# Altium integrated library Xilinx XC7000.IntLib: 173 symbols (part 5 of 9)
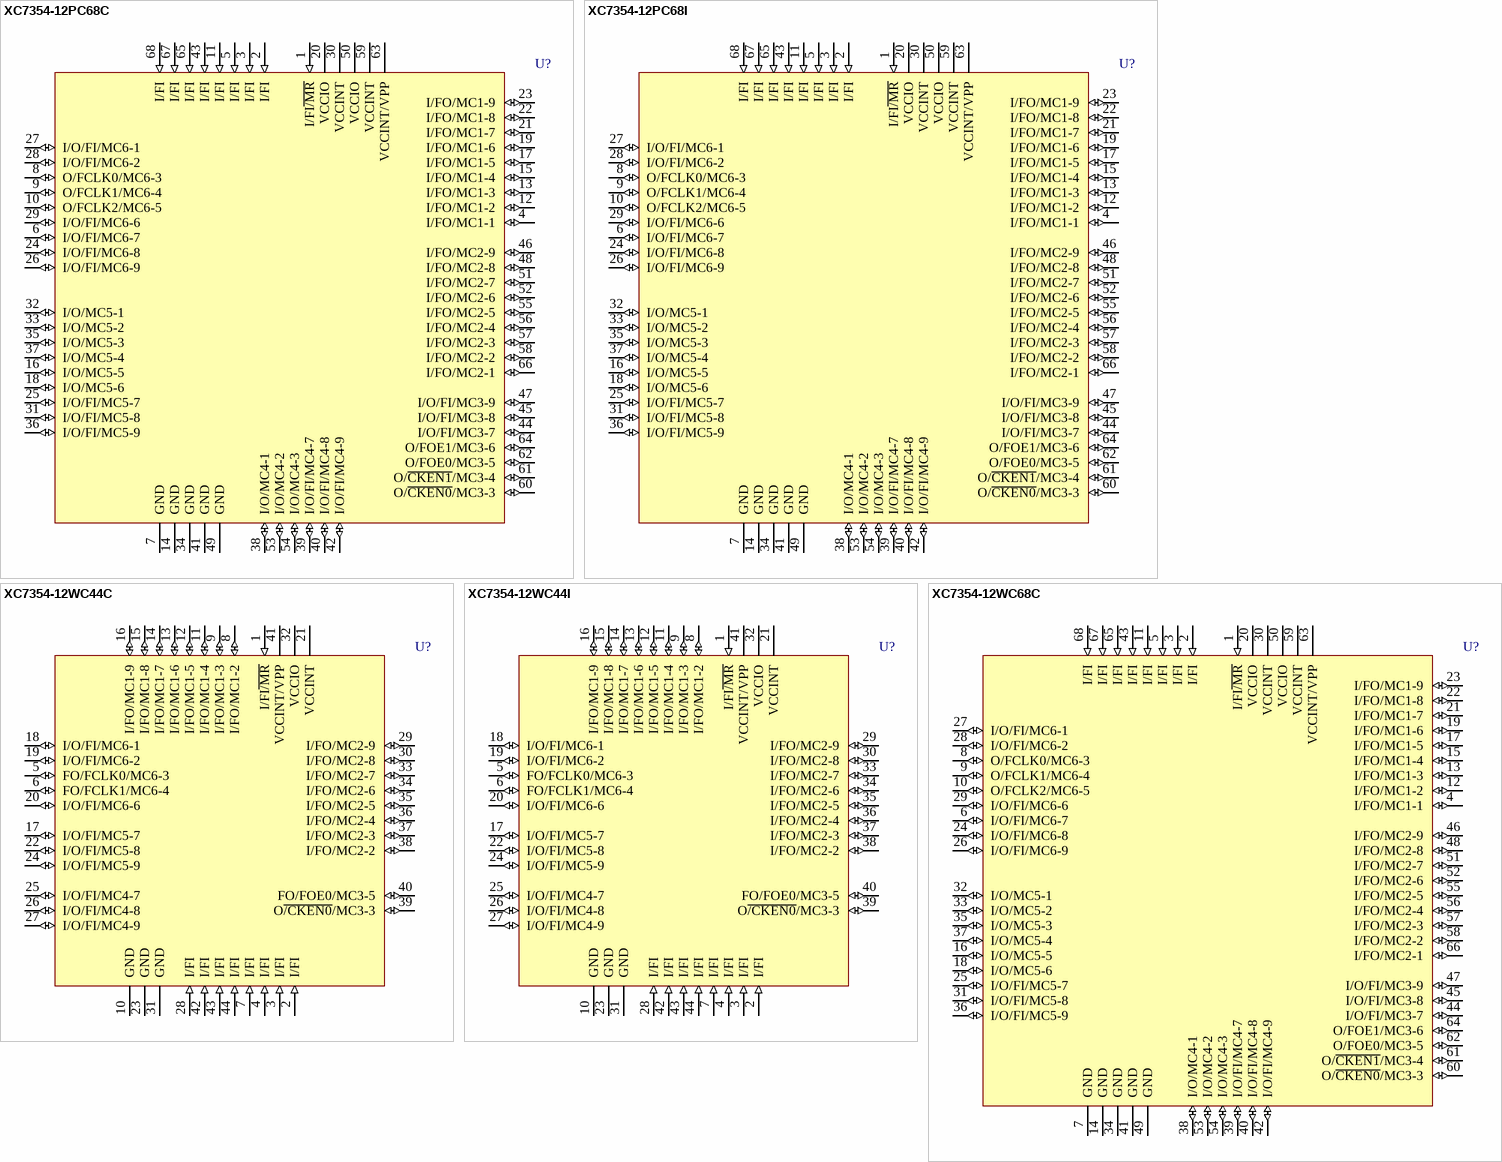
[diagram p51: symbols XC7354-12PC68C to XC7354-12WC68C]

## XC7354-12WC44C
designator U?
54 Macrocell CMOS EPLD, with 27 I/O Pins, 44-Pin LCC, Commercial Grade; Published: 8-Jun-2000; LatestRevisionDate: 13-Apr-2006; LatestRevisionNote: IPC-7351 Footprint Added.; DatasheetVersion: 1994; PackageVersion: 1994; PackageReference: WC44; Publisher: Altium Limited; PackageDescription: 44-Pin Window Ceramic Leaded Chip Carrier (WC44); Code_IPC: PLCC-44; ComponentLink1Description: Manufacturer Link; ComponentLink1URL: http://www.xilinx.com/; ComponentLink2Description: Discontinuation Notice; ComponentLink2URL: http://direct.xilinx.com/bvdocs/notifications/pdn97008a.pdf
footprint WC44_N (Leaded Chip Carrier, 44-Leads, Body 16.4x16.4mm, Pitch 1.27mm, IPC Medium Density)
footprint WC44_L (Leaded Chip Carrier, 44-Leads, Body 16.4x16.4mm, Pitch 1.27mm, IPC High Density)
footprint WC44_M (Leaded Chip Carrier, 44-Leads, Body 16.4x16.4mm, Pitch 1.27mm, IPC Low Density)
3D model XC7354-WC44 (44-Pin Window Ceramic Leaded Chip Carrier (WC44))
pins: 1 I/FI~{/MR} (in), 2 I/FI (in), 3 I/FI (in), 4 I/FI (in), 5 FO/FCLK0/MC6-3 (io), 6 FO/FCLK1/MC6-4 (io), 7 I/FI (in), 8 I/FO/MC1-2 (io), 9 I/FO/MC1-3 (io), 10 GND (power), 11 I/FO/MC1-4 (io), 12 I/FO/MC1-5 (io), 13 I/FO/MC1-6 (io), 14 I/FO/MC1-7 (io), 15 I/FO/MC1-8 (io), 16 I/FO/MC1-9 (io), 17 I/O/FI/MC5-7 (io), 18 I/O/FI/MC6-1 (io), 19 I/O/FI/MC6-2 (io), 20 I/O/FI/MC6-6 (io), 21 VCCINT (power), 22 I/O/FI/MC5-8 (io), 23 GND (power), 24 I/O/FI/MC5-9 (io), 25 I/O/FI/MC4-7 (io), 26 I/O/FI/MC4-8 (io), 27 I/O/FI/MC4-9 (io), 28 I/FI (in), 29 I/FO/MC2-9 (io), 30 I/FO/MC2-8 (io), 31 GND (power), 32 VCCIO (power), 33 I/FO/MC2-7 (io), 34 I/FO/MC2-6 (io), 35 I/FO/MC2-5 (io), 36 I/FO/MC2-4 (io), 37 I/FO/MC2-3 (io), 38 I/FO/MC2-2 (io), 39 O~{/CKEN0}/MC3-3 (io), 40 FO/FOE0/MC3-5 (io), 41 VCCINT/VPP (power), 42 I/FI (in), 43 I/FI (in), 44 I/FI (in)

## XC7354-12WC44I
designator U?
54 Macrocell CMOS EPLD, with 27 I/O Pins, 44-Pin LCC, Industrial Grade; Published: 8-Jun-2000; LatestRevisionDate: 13-Apr-2006; LatestRevisionNote: IPC-7351 Footprint Added.; DatasheetVersion: 1994; PackageVersion: 1994; PackageReference: WC44; Publisher: Altium Limited; PackageDescription: 44-Pin Window Ceramic Leaded Chip Carrier (WC44); Code_IPC: PLCC-44; ComponentLink1Description: Manufacturer Link; ComponentLink1URL: http://www.xilinx.com/; ComponentLink2Description: Discontinuation Notice; ComponentLink2URL: http://direct.xilinx.com/bvdocs/notifications/pdn97008a.pdf
footprint WC44_N (Leaded Chip Carrier, 44-Leads, Body 16.4x16.4mm, Pitch 1.27mm, IPC Medium Density)
footprint WC44_L (Leaded Chip Carrier, 44-Leads, Body 16.4x16.4mm, Pitch 1.27mm, IPC High Density)
footprint WC44_M (Leaded Chip Carrier, 44-Leads, Body 16.4x16.4mm, Pitch 1.27mm, IPC Low Density)
3D model XC7354-WC44 (44-Pin Window Ceramic Leaded Chip Carrier (WC44))
pins: 1 I/FI~{/MR} (in), 2 I/FI (in), 3 I/FI (in), 4 I/FI (in), 5 FO/FCLK0/MC6-3 (io), 6 FO/FCLK1/MC6-4 (io), 7 I/FI (in), 8 I/FO/MC1-2 (io), 9 I/FO/MC1-3 (io), 10 GND (power), 11 I/FO/MC1-4 (io), 12 I/FO/MC1-5 (io), 13 I/FO/MC1-6 (io), 14 I/FO/MC1-7 (io), 15 I/FO/MC1-8 (io), 16 I/FO/MC1-9 (io), 17 I/O/FI/MC5-7 (io), 18 I/O/FI/MC6-1 (io), 19 I/O/FI/MC6-2 (io), 20 I/O/FI/MC6-6 (io), 21 VCCINT (power), 22 I/O/FI/MC5-8 (io), 23 GND (power), 24 I/O/FI/MC5-9 (io), 25 I/O/FI/MC4-7 (io), 26 I/O/FI/MC4-8 (io), 27 I/O/FI/MC4-9 (io), 28 I/FI (in), 29 I/FO/MC2-9 (io), 30 I/FO/MC2-8 (io), 31 GND (power), 32 VCCIO (power), 33 I/FO/MC2-7 (io), 34 I/FO/MC2-6 (io), 35 I/FO/MC2-5 (io), 36 I/FO/MC2-4 (io), 37 I/FO/MC2-3 (io), 38 I/FO/MC2-2 (io), 39 O~{/CKEN0}/MC3-3 (io), 40 FO/FOE0/MC3-5 (io), 41 VCCINT/VPP (power), 42 I/FI (in), 43 I/FI (in), 44 I/FI (in)

## XC7354-12WC68C
designator U?
54 Macrocell CMOS EPLD, with 23 I/O Pins, 68-Pin CLCC, Commercial Grade; Published: 8-Jun-2000; LatestRevisionDate: 13-Apr-2006; LatestRevisionNote: IPC-7351 Footprint Added.; DatasheetVersion: 1994; PackageVersion: 1994; PackageReference: WC68; Publisher: Altium Limited; PackageDescription: 68-Pin Window Ceramic Leaded Chip Carrier (WC68); Code_IPC: PLCC-68; ComponentLink1Description: Manufacturer Link; ComponentLink1URL: http://www.xilinx.com/; ComponentLink2Description: Discontinuation Notice; ComponentLink2URL: http://direct.xilinx.com/bvdocs/notifications/pdn97008a.pdf
footprint WC68_N (Leaded Chip Carrier, 68-Leads, Body 24x24mm, Pitch 1.27mm, IPC Medium Density)
footprint WC68_L (Leaded Chip Carrier, 68-Leads, Body 24x24mm, Pitch 1.27mm, IPC High Density)
footprint WC68_M (Leaded Chip Carrier, 68-Leads, Body 24x24mm, Pitch 1.27mm, IPC Low Density)
3D model XC7354-WC68 (68-Pin Window Ceramic Leaded Chip Carrier (WC68))
pins: 1 I/FI~{/MR} (in), 2 I/FI (in), 3 I/FI (in), 4 I/FO/MC1-1 (io), 5 I/FI (in), 6 I/O/FI/MC6-7 (io), 7 GND (power), 8 O/FCLK0/MC6-3 (io), 9 O/FCLK1/MC6-4 (io), 10 O/FCLK2/MC6-5 (io), 11 I/FI (in), 12 I/FO/MC1-2 (io), 13 I/FO/MC1-3 (io), 14 GND (power), 15 I/FO/MC1-4 (io), 16 I/O/MC5-5 (io), 17 I/FO/MC1-5 (io), 18 I/O/MC5-6 (io), 19 I/FO/MC1-6 (io), 20 VCCIO (power), 21 I/FO/MC1-7 (io), 22 I/FO/MC1-8 (io), 23 I/FO/MC1-9 (io), 24 I/O/FI/MC6-8 (io), 25 I/O/FI/MC5-7 (io), 26 I/O/FI/MC6-9 (io), 27 I/O/FI/MC6-1 (io), 28 I/O/FI/MC6-2 (io), 29 I/O/FI/MC6-6 (io), 30 VCCINT (power), 31 I/O/FI/MC5-8 (io), 32 I/O/MC5-1 (io), 33 I/O/MC5-2 (io), 34 GND (power), 35 I/O/MC5-3 (io), 36 I/O/FI/MC5-9 (io), 37 I/O/MC5-4 (io), 38 I/O/MC4-1 (io), 39 I/O/FI/MC4-7 (io), 40 I/O/FI/MC4-8 (io), 41 GND (power), 42 I/O/FI/MC4-9 (io), 43 I/FI (in), 44 I/O/FI/MC3-7 (io), 45 I/O/FI/MC3-8 (io), 46 I/FO/MC2-9 (io), 47 I/O/FI/MC3-9 (io), 48 I/FO/MC2-8 (io), 49 GND (power), 50 VCCIO (power), 51 I/FO/MC2-7 (io), 52 I/FO/MC2-6 (io), 53 I/O/MC4-2 (io), 54 I/O/MC4-3 (io), 55 I/FO/MC2-5 (io), 56 I/FO/MC2-4 (io), 57 I/FO/MC2-3 (io), 58 I/FO/MC2-2 (io), 59 VCCINT (power), 60 O/~{CKEN0}/MC3-3 (io), 61 O/~{CKEN1}/MC3-4 (io), 62 O/FOE0/MC3-5 (io), 63 VCCINT/VPP (power), 64 O/FOE1/MC3-6 (io), 65 I/FI (in), 66 I/FO/MC2-1 (io), 67 I/FI (in), 68 I/FI (in)

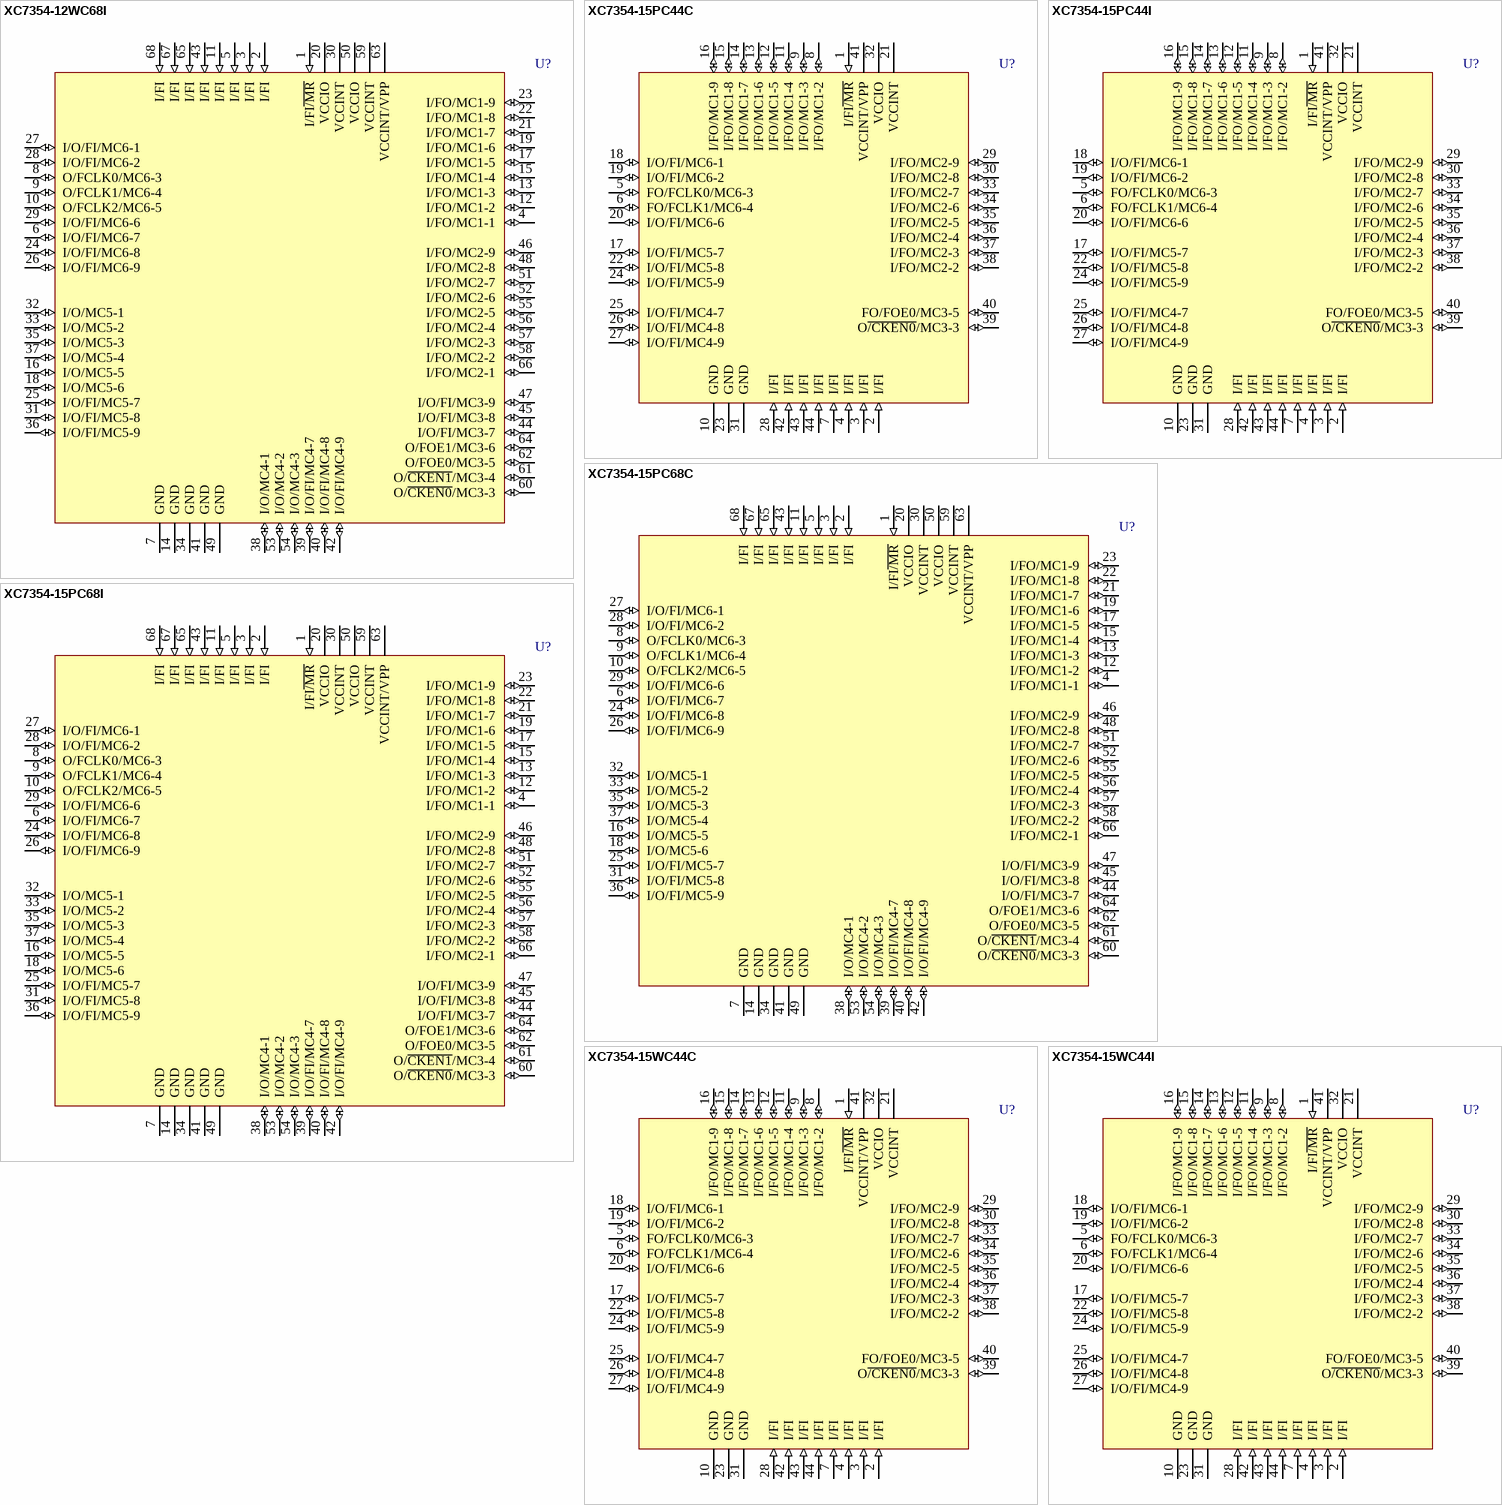
[diagram p18: symbols XC7354-12WC68I to XC7354-15WC44I]

## XC7354-12WC68I
designator U?
54 Macrocell CMOS EPLD, with 23 I/O Pins, 68-Pin CLCC, Industrial Grade; Published: 8-Jun-2000; LatestRevisionDate: 13-Apr-2006; LatestRevisionNote: IPC-7351 Footprint Added.; DatasheetVersion: 1994; PackageVersion: 1994; PackageReference: WC68; Publisher: Altium Limited; PackageDescription: 68-Pin Window Ceramic Leaded Chip Carrier (WC68); Code_IPC: PLCC-68; ComponentLink1Description: Manufacturer Link; ComponentLink1URL: http://www.xilinx.com/; ComponentLink2Description: Discontinuation Notice; ComponentLink2URL: http://direct.xilinx.com/bvdocs/notifications/pdn97008a.pdf
footprint WC68_N (Leaded Chip Carrier, 68-Leads, Body 24x24mm, Pitch 1.27mm, IPC Medium Density)
footprint WC68_L (Leaded Chip Carrier, 68-Leads, Body 24x24mm, Pitch 1.27mm, IPC High Density)
footprint WC68_M (Leaded Chip Carrier, 68-Leads, Body 24x24mm, Pitch 1.27mm, IPC Low Density)
3D model XC7354-WC68 (68-Pin Window Ceramic Leaded Chip Carrier (WC68))
pins: 1 I/FI~{/MR} (in), 2 I/FI (in), 3 I/FI (in), 4 I/FO/MC1-1 (io), 5 I/FI (in), 6 I/O/FI/MC6-7 (io), 7 GND (power), 8 O/FCLK0/MC6-3 (io), 9 O/FCLK1/MC6-4 (io), 10 O/FCLK2/MC6-5 (io), 11 I/FI (in), 12 I/FO/MC1-2 (io), 13 I/FO/MC1-3 (io), 14 GND (power), 15 I/FO/MC1-4 (io), 16 I/O/MC5-5 (io), 17 I/FO/MC1-5 (io), 18 I/O/MC5-6 (io), 19 I/FO/MC1-6 (io), 20 VCCIO (power), 21 I/FO/MC1-7 (io), 22 I/FO/MC1-8 (io), 23 I/FO/MC1-9 (io), 24 I/O/FI/MC6-8 (io), 25 I/O/FI/MC5-7 (io), 26 I/O/FI/MC6-9 (io), 27 I/O/FI/MC6-1 (io), 28 I/O/FI/MC6-2 (io), 29 I/O/FI/MC6-6 (io), 30 VCCINT (power), 31 I/O/FI/MC5-8 (io), 32 I/O/MC5-1 (io), 33 I/O/MC5-2 (io), 34 GND (power), 35 I/O/MC5-3 (io), 36 I/O/FI/MC5-9 (io), 37 I/O/MC5-4 (io), 38 I/O/MC4-1 (io), 39 I/O/FI/MC4-7 (io), 40 I/O/FI/MC4-8 (io), 41 GND (power), 42 I/O/FI/MC4-9 (io), 43 I/FI (in), 44 I/O/FI/MC3-7 (io), 45 I/O/FI/MC3-8 (io), 46 I/FO/MC2-9 (io), 47 I/O/FI/MC3-9 (io), 48 I/FO/MC2-8 (io), 49 GND (power), 50 VCCIO (power), 51 I/FO/MC2-7 (io), 52 I/FO/MC2-6 (io), 53 I/O/MC4-2 (io), 54 I/O/MC4-3 (io), 55 I/FO/MC2-5 (io), 56 I/FO/MC2-4 (io), 57 I/FO/MC2-3 (io), 58 I/FO/MC2-2 (io), 59 VCCINT (power), 60 O/~{CKEN0}/MC3-3 (io), 61 O/~{CKEN1}/MC3-4 (io), 62 O/FOE0/MC3-5 (io), 63 VCCINT/VPP (power), 64 O/FOE1/MC3-6 (io), 65 I/FI (in), 66 I/FO/MC2-1 (io), 67 I/FI (in), 68 I/FI (in)

## XC7354-15PC44C
designator U?
54 Macrocell CMOS EPLD, with 27 I/O Pins, 44-Pin PLCC, Commercial Grade; Published: 8-Jun-2000; LatestRevisionDate: 13-Apr-2006; LatestRevisionNote: IPC-7351 Footprint Added.; DatasheetVersion: 1994; PackageVersion: ver1.2, Jun-2004; PackageReference: PC44; Publisher: Altium Limited; PackageDescription: 44-Pin Plastic Leaded Chip Carrier (PC44); Code_JEDEC: MS-047; Code_IPC: PLCC-44; ComponentLink1Description: Manufacturer Link; ComponentLink1URL: http://www.xilinx.com/; ComponentLink2Description: Discontinuation Notice; ComponentLink2URL: http://direct.xilinx.com/bvdocs/notifications/pdn97008a.pdf
footprint PC44_N (Leaded Chip Carrier, 44-Leads, Body 16.6x16.6mm, Pitch 1.27mm, IPC Medium Density)
footprint PC44_L (Leaded Chip Carrier, 44-Leads, Body 16.6x16.6mm, Pitch 1.27mm, IPC High Density)
footprint PC44_M (Leaded Chip Carrier, 44-Leads, Body 16.6x16.6mm, Pitch 1.27mm, IPC Low Density)
3D model XC7354-PC44 (44-Pin Plastic Leaded Chip Carrier (PC44))
pins: 1 I/FI~{/MR} (in), 2 I/FI (in), 3 I/FI (in), 4 I/FI (in), 5 FO/FCLK0/MC6-3 (io), 6 FO/FCLK1/MC6-4 (io), 7 I/FI (in), 8 I/FO/MC1-2 (io), 9 I/FO/MC1-3 (io), 10 GND (power), 11 I/FO/MC1-4 (io), 12 I/FO/MC1-5 (io), 13 I/FO/MC1-6 (io), 14 I/FO/MC1-7 (io), 15 I/FO/MC1-8 (io), 16 I/FO/MC1-9 (io), 17 I/O/FI/MC5-7 (io), 18 I/O/FI/MC6-1 (io), 19 I/O/FI/MC6-2 (io), 20 I/O/FI/MC6-6 (io), 21 VCCINT (power), 22 I/O/FI/MC5-8 (io), 23 GND (power), 24 I/O/FI/MC5-9 (io), 25 I/O/FI/MC4-7 (io), 26 I/O/FI/MC4-8 (io), 27 I/O/FI/MC4-9 (io), 28 I/FI (in), 29 I/FO/MC2-9 (io), 30 I/FO/MC2-8 (io), 31 GND (power), 32 VCCIO (power), 33 I/FO/MC2-7 (io), 34 I/FO/MC2-6 (io), 35 I/FO/MC2-5 (io), 36 I/FO/MC2-4 (io), 37 I/FO/MC2-3 (io), 38 I/FO/MC2-2 (io), 39 O~{/CKEN0}/MC3-3 (io), 40 FO/FOE0/MC3-5 (io), 41 VCCINT/VPP (power), 42 I/FI (in), 43 I/FI (in), 44 I/FI (in)

## XC7354-15PC44I
designator U?
54 Macrocell CMOS EPLD, with 27 I/O Pins, 44-Pin PLCC, Industrial Grade; Published: 8-Jun-2000; LatestRevisionDate: 13-Apr-2006; LatestRevisionNote: IPC-7351 Footprint Added.; DatasheetVersion: 1994; PackageVersion: ver1.2, Jun-2004; PackageReference: PC44; Publisher: Altium Limited; PackageDescription: 44-Pin Plastic Leaded Chip Carrier (PC44); Code_JEDEC: MS-047; Code_IPC: PLCC-44; ComponentLink1Description: Manufacturer Link; ComponentLink1URL: http://www.xilinx.com/; ComponentLink2Description: Discontinuation Notice; ComponentLink2URL: http://direct.xilinx.com/bvdocs/notifications/pdn97008a.pdf
footprint PC44_N (Leaded Chip Carrier, 44-Leads, Body 16.6x16.6mm, Pitch 1.27mm, IPC Medium Density)
footprint PC44_L (Leaded Chip Carrier, 44-Leads, Body 16.6x16.6mm, Pitch 1.27mm, IPC High Density)
footprint PC44_M (Leaded Chip Carrier, 44-Leads, Body 16.6x16.6mm, Pitch 1.27mm, IPC Low Density)
3D model XC7354-PC44 (44-Pin Plastic Leaded Chip Carrier (PC44))
pins: 1 I/FI~{/MR} (in), 2 I/FI (in), 3 I/FI (in), 4 I/FI (in), 5 FO/FCLK0/MC6-3 (io), 6 FO/FCLK1/MC6-4 (io), 7 I/FI (in), 8 I/FO/MC1-2 (io), 9 I/FO/MC1-3 (io), 10 GND (power), 11 I/FO/MC1-4 (io), 12 I/FO/MC1-5 (io), 13 I/FO/MC1-6 (io), 14 I/FO/MC1-7 (io), 15 I/FO/MC1-8 (io), 16 I/FO/MC1-9 (io), 17 I/O/FI/MC5-7 (io), 18 I/O/FI/MC6-1 (io), 19 I/O/FI/MC6-2 (io), 20 I/O/FI/MC6-6 (io), 21 VCCINT (power), 22 I/O/FI/MC5-8 (io), 23 GND (power), 24 I/O/FI/MC5-9 (io), 25 I/O/FI/MC4-7 (io), 26 I/O/FI/MC4-8 (io), 27 I/O/FI/MC4-9 (io), 28 I/FI (in), 29 I/FO/MC2-9 (io), 30 I/FO/MC2-8 (io), 31 GND (power), 32 VCCIO (power), 33 I/FO/MC2-7 (io), 34 I/FO/MC2-6 (io), 35 I/FO/MC2-5 (io), 36 I/FO/MC2-4 (io), 37 I/FO/MC2-3 (io), 38 I/FO/MC2-2 (io), 39 O~{/CKEN0}/MC3-3 (io), 40 FO/FOE0/MC3-5 (io), 41 VCCINT/VPP (power), 42 I/FI (in), 43 I/FI (in), 44 I/FI (in)

## XC7354-15PC68C
designator U?
54 Macrocell CMOS EPLD, with 23 I/O Pins, 68-Pin PLCC, Commercial Grade; Published: 8-Jun-2000; LatestRevisionDate: 13-Apr-2006; LatestRevisionNote: IPC-7351 Footprint Added.; DatasheetVersion: 1994; PackageVersion: ver1.2, Jun-2004; PackageReference: PC68; Publisher: Altium Limited; PackageDescription: 68-Pin Plastic Leaded Chip Carrier (PC68); Code_JEDEC: MO-047; Code_IPC: PLCC-68; ComponentLink1Description: Manufacturer Link; ComponentLink1URL: http://www.xilinx.com/; ComponentLink2Description: Discontinuation Notice; ComponentLink2URL: http://direct.xilinx.com/bvdocs/notifications/pdn97008a.pdf
footprint PC68_N (Leaded Chip Carrier, 68-Leads, Body 24x24mm, Pitch 1.27mm, IPC Medium Density)
footprint PC68_L (Leaded Chip Carrier, 68-Leads, Body 24x24mm, Pitch 1.27mm, IPC High Density)
footprint PC68_M (Leaded Chip Carrier, 68-Leads, Body 24x24mm, Pitch 1.27mm, IPC Low Density)
3D model XC7354-PC68 (68-Pin Plastic Leaded Chip Carrier (PC68))
pins: 1 I/FI~{/MR} (in), 2 I/FI (in), 3 I/FI (in), 4 I/FO/MC1-1 (io), 5 I/FI (in), 6 I/O/FI/MC6-7 (io), 7 GND (power), 8 O/FCLK0/MC6-3 (io), 9 O/FCLK1/MC6-4 (io), 10 O/FCLK2/MC6-5 (io), 11 I/FI (in), 12 I/FO/MC1-2 (io), 13 I/FO/MC1-3 (io), 14 GND (power), 15 I/FO/MC1-4 (io), 16 I/O/MC5-5 (io), 17 I/FO/MC1-5 (io), 18 I/O/MC5-6 (io), 19 I/FO/MC1-6 (io), 20 VCCIO (power), 21 I/FO/MC1-7 (io), 22 I/FO/MC1-8 (io), 23 I/FO/MC1-9 (io), 24 I/O/FI/MC6-8 (io), 25 I/O/FI/MC5-7 (io), 26 I/O/FI/MC6-9 (io), 27 I/O/FI/MC6-1 (io), 28 I/O/FI/MC6-2 (io), 29 I/O/FI/MC6-6 (io), 30 VCCINT (power), 31 I/O/FI/MC5-8 (io), 32 I/O/MC5-1 (io), 33 I/O/MC5-2 (io), 34 GND (power), 35 I/O/MC5-3 (io), 36 I/O/FI/MC5-9 (io), 37 I/O/MC5-4 (io), 38 I/O/MC4-1 (io), 39 I/O/FI/MC4-7 (io), 40 I/O/FI/MC4-8 (io), 41 GND (power), 42 I/O/FI/MC4-9 (io), 43 I/FI (in), 44 I/O/FI/MC3-7 (io), 45 I/O/FI/MC3-8 (io), 46 I/FO/MC2-9 (io), 47 I/O/FI/MC3-9 (io), 48 I/FO/MC2-8 (io), 49 GND (power), 50 VCCIO (power), 51 I/FO/MC2-7 (io), 52 I/FO/MC2-6 (io), 53 I/O/MC4-2 (io), 54 I/O/MC4-3 (io), 55 I/FO/MC2-5 (io), 56 I/FO/MC2-4 (io), 57 I/FO/MC2-3 (io), 58 I/FO/MC2-2 (io), 59 VCCINT (power), 60 O/~{CKEN0}/MC3-3 (io), 61 O/~{CKEN1}/MC3-4 (io), 62 O/FOE0/MC3-5 (io), 63 VCCINT/VPP (power), 64 O/FOE1/MC3-6 (io), 65 I/FI (in), 66 I/FO/MC2-1 (io), 67 I/FI (in), 68 I/FI (in)

## XC7354-15PC68I
designator U?
54 Macrocell CMOS EPLD, with 23 I/O Pins, 68-Pin PLCC, Industrial Grade; Published: 8-Jun-2000; LatestRevisionDate: 13-Apr-2006; LatestRevisionNote: IPC-7351 Footprint Added.; DatasheetVersion: 1994; PackageVersion: ver1.2, Jun-2004; PackageReference: PC68; Publisher: Altium Limited; PackageDescription: 68-Pin Plastic Leaded Chip Carrier (PC68); Code_JEDEC: MO-047; Code_IPC: PLCC-68; ComponentLink1Description: Manufacturer Link; ComponentLink1URL: http://www.xilinx.com/; ComponentLink2Description: Discontinuation Notice; ComponentLink2URL: http://direct.xilinx.com/bvdocs/notifications/pdn97008a.pdf
footprint PC68_N (Leaded Chip Carrier, 68-Leads, Body 24x24mm, Pitch 1.27mm, IPC Medium Density)
footprint PC68_L (Leaded Chip Carrier, 68-Leads, Body 24x24mm, Pitch 1.27mm, IPC High Density)
footprint PC68_M (Leaded Chip Carrier, 68-Leads, Body 24x24mm, Pitch 1.27mm, IPC Low Density)
3D model XC7354-PC68 (68-Pin Plastic Leaded Chip Carrier (PC68))
pins: 1 I/FI~{/MR} (in), 2 I/FI (in), 3 I/FI (in), 4 I/FO/MC1-1 (io), 5 I/FI (in), 6 I/O/FI/MC6-7 (io), 7 GND (power), 8 O/FCLK0/MC6-3 (io), 9 O/FCLK1/MC6-4 (io), 10 O/FCLK2/MC6-5 (io), 11 I/FI (in), 12 I/FO/MC1-2 (io), 13 I/FO/MC1-3 (io), 14 GND (power), 15 I/FO/MC1-4 (io), 16 I/O/MC5-5 (io), 17 I/FO/MC1-5 (io), 18 I/O/MC5-6 (io), 19 I/FO/MC1-6 (io), 20 VCCIO (power), 21 I/FO/MC1-7 (io), 22 I/FO/MC1-8 (io), 23 I/FO/MC1-9 (io), 24 I/O/FI/MC6-8 (io), 25 I/O/FI/MC5-7 (io), 26 I/O/FI/MC6-9 (io), 27 I/O/FI/MC6-1 (io), 28 I/O/FI/MC6-2 (io), 29 I/O/FI/MC6-6 (io), 30 VCCINT (power), 31 I/O/FI/MC5-8 (io), 32 I/O/MC5-1 (io), 33 I/O/MC5-2 (io), 34 GND (power), 35 I/O/MC5-3 (io), 36 I/O/FI/MC5-9 (io), 37 I/O/MC5-4 (io), 38 I/O/MC4-1 (io), 39 I/O/FI/MC4-7 (io), 40 I/O/FI/MC4-8 (io), 41 GND (power), 42 I/O/FI/MC4-9 (io), 43 I/FI (in), 44 I/O/FI/MC3-7 (io), 45 I/O/FI/MC3-8 (io), 46 I/FO/MC2-9 (io), 47 I/O/FI/MC3-9 (io), 48 I/FO/MC2-8 (io), 49 GND (power), 50 VCCIO (power), 51 I/FO/MC2-7 (io), 52 I/FO/MC2-6 (io), 53 I/O/MC4-2 (io), 54 I/O/MC4-3 (io), 55 I/FO/MC2-5 (io), 56 I/FO/MC2-4 (io), 57 I/FO/MC2-3 (io), 58 I/FO/MC2-2 (io), 59 VCCINT (power), 60 O/~{CKEN0}/MC3-3 (io), 61 O/~{CKEN1}/MC3-4 (io), 62 O/FOE0/MC3-5 (io), 63 VCCINT/VPP (power), 64 O/FOE1/MC3-6 (io), 65 I/FI (in), 66 I/FO/MC2-1 (io), 67 I/FI (in), 68 I/FI (in)

## XC7354-15WC44C
designator U?
54 Macrocell CMOS EPLD, with 27 I/O Pins, 44-Pin LCC, Commercial Grade; Published: 8-Jun-2000; LatestRevisionDate: 13-Apr-2006; LatestRevisionNote: IPC-7351 Footprint Added.; DatasheetVersion: 1994; PackageVersion: 1994; PackageReference: WC44; Publisher: Altium Limited; PackageDescription: 44-Pin Window Ceramic Leaded Chip Carrier (WC44); Code_IPC: PLCC-44; ComponentLink1Description: Manufacturer Link; ComponentLink1URL: http://www.xilinx.com/; ComponentLink2Description: Discontinuation Notice; ComponentLink2URL: http://direct.xilinx.com/bvdocs/notifications/pdn97008a.pdf
footprint WC44_N (Leaded Chip Carrier, 44-Leads, Body 16.4x16.4mm, Pitch 1.27mm, IPC Medium Density)
footprint WC44_L (Leaded Chip Carrier, 44-Leads, Body 16.4x16.4mm, Pitch 1.27mm, IPC High Density)
footprint WC44_M (Leaded Chip Carrier, 44-Leads, Body 16.4x16.4mm, Pitch 1.27mm, IPC Low Density)
3D model XC7354-WC44 (44-Pin Window Ceramic Leaded Chip Carrier (WC44))
pins: 1 I/FI~{/MR} (in), 2 I/FI (in), 3 I/FI (in), 4 I/FI (in), 5 FO/FCLK0/MC6-3 (io), 6 FO/FCLK1/MC6-4 (io), 7 I/FI (in), 8 I/FO/MC1-2 (io), 9 I/FO/MC1-3 (io), 10 GND (power), 11 I/FO/MC1-4 (io), 12 I/FO/MC1-5 (io), 13 I/FO/MC1-6 (io), 14 I/FO/MC1-7 (io), 15 I/FO/MC1-8 (io), 16 I/FO/MC1-9 (io), 17 I/O/FI/MC5-7 (io), 18 I/O/FI/MC6-1 (io), 19 I/O/FI/MC6-2 (io), 20 I/O/FI/MC6-6 (io), 21 VCCINT (power), 22 I/O/FI/MC5-8 (io), 23 GND (power), 24 I/O/FI/MC5-9 (io), 25 I/O/FI/MC4-7 (io), 26 I/O/FI/MC4-8 (io), 27 I/O/FI/MC4-9 (io), 28 I/FI (in), 29 I/FO/MC2-9 (io), 30 I/FO/MC2-8 (io), 31 GND (power), 32 VCCIO (power), 33 I/FO/MC2-7 (io), 34 I/FO/MC2-6 (io), 35 I/FO/MC2-5 (io), 36 I/FO/MC2-4 (io), 37 I/FO/MC2-3 (io), 38 I/FO/MC2-2 (io), 39 O~{/CKEN0}/MC3-3 (io), 40 FO/FOE0/MC3-5 (io), 41 VCCINT/VPP (power), 42 I/FI (in), 43 I/FI (in), 44 I/FI (in)

## XC7354-15WC44I
designator U?
54 Macrocell CMOS EPLD, with 27 I/O Pins, 44-Pin LCC, Industrial Grade; Published: 8-Jun-2000; LatestRevisionDate: 13-Apr-2006; LatestRevisionNote: IPC-7351 Footprint Added.; DatasheetVersion: 1994; PackageVersion: 1994; PackageReference: WC44; Publisher: Altium Limited; PackageDescription: 44-Pin Window Ceramic Leaded Chip Carrier (WC44); Code_IPC: PLCC-44; ComponentLink1Description: Manufacturer Link; ComponentLink1URL: http://www.xilinx.com/; ComponentLink2Description: Discontinuation Notice; ComponentLink2URL: http://direct.xilinx.com/bvdocs/notifications/pdn97008a.pdf
footprint WC44_N (Leaded Chip Carrier, 44-Leads, Body 16.4x16.4mm, Pitch 1.27mm, IPC Medium Density)
footprint WC44_L (Leaded Chip Carrier, 44-Leads, Body 16.4x16.4mm, Pitch 1.27mm, IPC High Density)
footprint WC44_M (Leaded Chip Carrier, 44-Leads, Body 16.4x16.4mm, Pitch 1.27mm, IPC Low Density)
3D model XC7354-WC44 (44-Pin Window Ceramic Leaded Chip Carrier (WC44))
pins: 1 I/FI~{/MR} (in), 2 I/FI (in), 3 I/FI (in), 4 I/FI (in), 5 FO/FCLK0/MC6-3 (io), 6 FO/FCLK1/MC6-4 (io), 7 I/FI (in), 8 I/FO/MC1-2 (io), 9 I/FO/MC1-3 (io), 10 GND (power), 11 I/FO/MC1-4 (io), 12 I/FO/MC1-5 (io), 13 I/FO/MC1-6 (io), 14 I/FO/MC1-7 (io), 15 I/FO/MC1-8 (io), 16 I/FO/MC1-9 (io), 17 I/O/FI/MC5-7 (io), 18 I/O/FI/MC6-1 (io), 19 I/O/FI/MC6-2 (io), 20 I/O/FI/MC6-6 (io), 21 VCCINT (power), 22 I/O/FI/MC5-8 (io), 23 GND (power), 24 I/O/FI/MC5-9 (io), 25 I/O/FI/MC4-7 (io), 26 I/O/FI/MC4-8 (io), 27 I/O/FI/MC4-9 (io), 28 I/FI (in), 29 I/FO/MC2-9 (io), 30 I/FO/MC2-8 (io), 31 GND (power), 32 VCCIO (power), 33 I/FO/MC2-7 (io), 34 I/FO/MC2-6 (io), 35 I/FO/MC2-5 (io), 36 I/FO/MC2-4 (io), 37 I/FO/MC2-3 (io), 38 I/FO/MC2-2 (io), 39 O~{/CKEN0}/MC3-3 (io), 40 FO/FOE0/MC3-5 (io), 41 VCCINT/VPP (power), 42 I/FI (in), 43 I/FI (in), 44 I/FI (in)

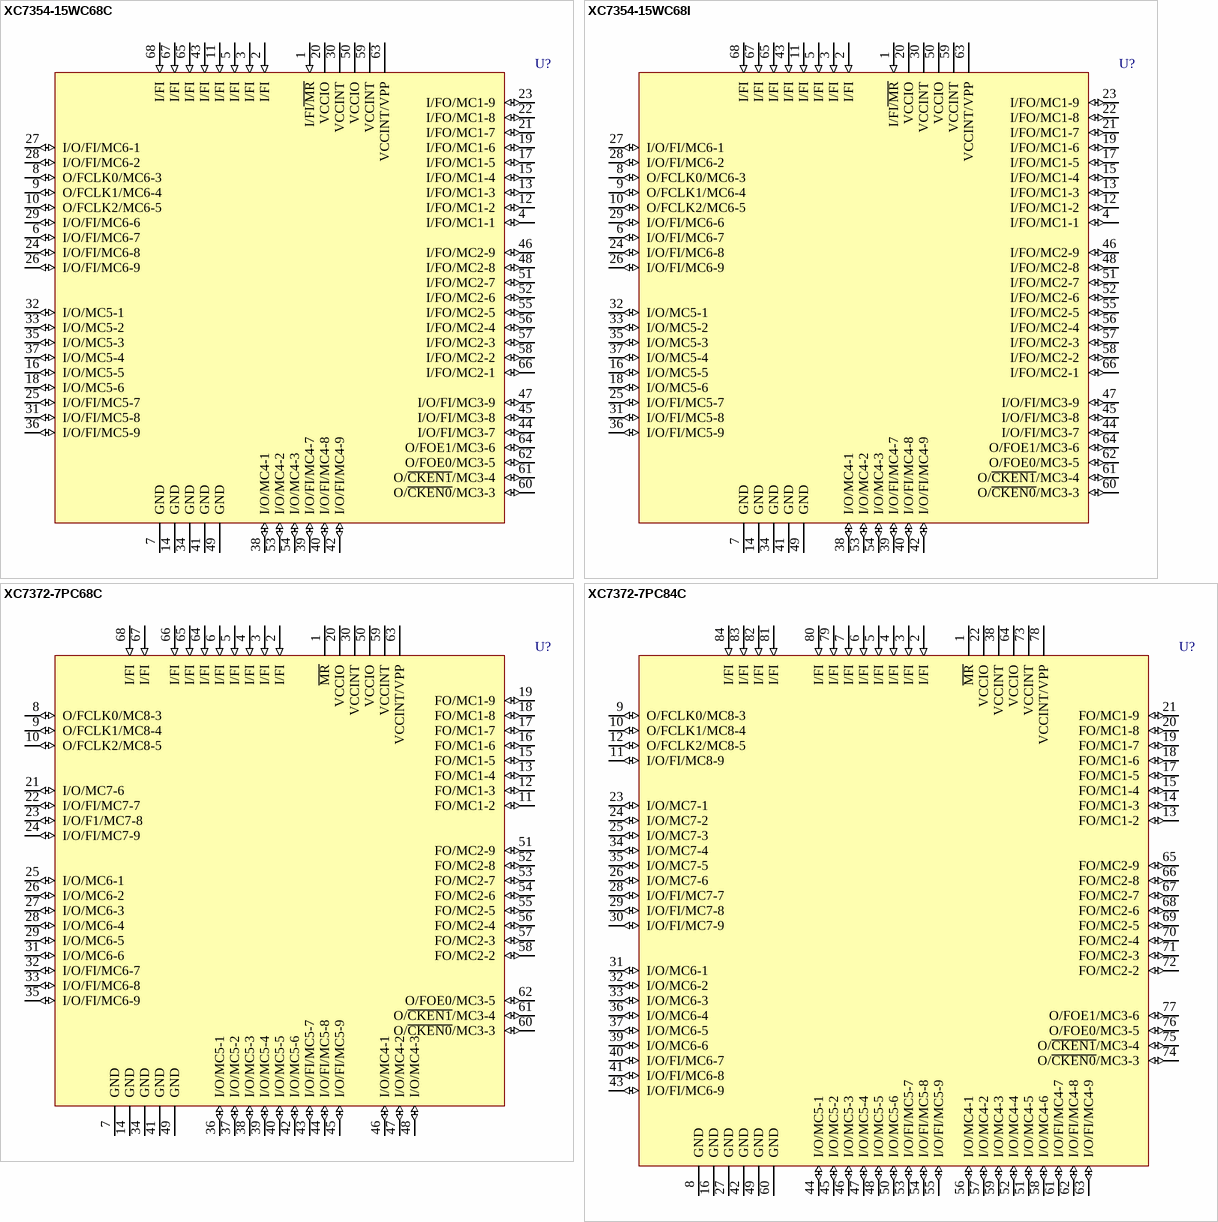
[diagram p19: symbols XC7354-15WC68C to XC7372-7PC84C]

## XC7354-15WC68C
designator U?
54 Macrocell CMOS EPLD, with 23 I/O Pins, 68-Pin CLCC, Commercial Grade; Published: 8-Jun-2000; LatestRevisionDate: 13-Apr-2006; LatestRevisionNote: IPC-7351 Footprint Added.; DatasheetVersion: 1994; PackageVersion: 1994; PackageReference: WC68; Publisher: Altium Limited; PackageDescription: 68-Pin Window Ceramic Leaded Chip Carrier (WC68); Code_IPC: PLCC-68; ComponentLink1Description: Manufacturer Link; ComponentLink1URL: http://www.xilinx.com/; ComponentLink2Description: Discontinuation Notice; ComponentLink2URL: http://direct.xilinx.com/bvdocs/notifications/pdn97008a.pdf
footprint WC68_N (Leaded Chip Carrier, 68-Leads, Body 24x24mm, Pitch 1.27mm, IPC Medium Density)
footprint WC68_L (Leaded Chip Carrier, 68-Leads, Body 24x24mm, Pitch 1.27mm, IPC High Density)
footprint WC68_M (Leaded Chip Carrier, 68-Leads, Body 24x24mm, Pitch 1.27mm, IPC Low Density)
3D model XC7354-WC68 (68-Pin Window Ceramic Leaded Chip Carrier (WC68))
pins: 1 I/FI~{/MR} (in), 2 I/FI (in), 3 I/FI (in), 4 I/FO/MC1-1 (io), 5 I/FI (in), 6 I/O/FI/MC6-7 (io), 7 GND (power), 8 O/FCLK0/MC6-3 (io), 9 O/FCLK1/MC6-4 (io), 10 O/FCLK2/MC6-5 (io), 11 I/FI (in), 12 I/FO/MC1-2 (io), 13 I/FO/MC1-3 (io), 14 GND (power), 15 I/FO/MC1-4 (io), 16 I/O/MC5-5 (io), 17 I/FO/MC1-5 (io), 18 I/O/MC5-6 (io), 19 I/FO/MC1-6 (io), 20 VCCIO (power), 21 I/FO/MC1-7 (io), 22 I/FO/MC1-8 (io), 23 I/FO/MC1-9 (io), 24 I/O/FI/MC6-8 (io), 25 I/O/FI/MC5-7 (io), 26 I/O/FI/MC6-9 (io), 27 I/O/FI/MC6-1 (io), 28 I/O/FI/MC6-2 (io), 29 I/O/FI/MC6-6 (io), 30 VCCINT (power), 31 I/O/FI/MC5-8 (io), 32 I/O/MC5-1 (io), 33 I/O/MC5-2 (io), 34 GND (power), 35 I/O/MC5-3 (io), 36 I/O/FI/MC5-9 (io), 37 I/O/MC5-4 (io), 38 I/O/MC4-1 (io), 39 I/O/FI/MC4-7 (io), 40 I/O/FI/MC4-8 (io), 41 GND (power), 42 I/O/FI/MC4-9 (io), 43 I/FI (in), 44 I/O/FI/MC3-7 (io), 45 I/O/FI/MC3-8 (io), 46 I/FO/MC2-9 (io), 47 I/O/FI/MC3-9 (io), 48 I/FO/MC2-8 (io), 49 GND (power), 50 VCCIO (power), 51 I/FO/MC2-7 (io), 52 I/FO/MC2-6 (io), 53 I/O/MC4-2 (io), 54 I/O/MC4-3 (io), 55 I/FO/MC2-5 (io), 56 I/FO/MC2-4 (io), 57 I/FO/MC2-3 (io), 58 I/FO/MC2-2 (io), 59 VCCINT (power), 60 O/~{CKEN0}/MC3-3 (io), 61 O/~{CKEN1}/MC3-4 (io), 62 O/FOE0/MC3-5 (io), 63 VCCINT/VPP (power), 64 O/FOE1/MC3-6 (io), 65 I/FI (in), 66 I/FO/MC2-1 (io), 67 I/FI (in), 68 I/FI (in)

## XC7354-15WC68I
designator U?
54 Macrocell CMOS EPLD, with 23 I/O Pins, 68-Pin CLCC, Industrial Grade; Published: 8-Jun-2000; LatestRevisionDate: 13-Apr-2006; LatestRevisionNote: IPC-7351 Footprint Added.; DatasheetVersion: 1994; PackageVersion: 1994; PackageReference: WC68; Publisher: Altium Limited; PackageDescription: 68-Pin Window Ceramic Leaded Chip Carrier (WC68); Code_IPC: PLCC-68; ComponentLink1Description: Manufacturer Link; ComponentLink1URL: http://www.xilinx.com/; ComponentLink2Description: Discontinuation Notice; ComponentLink2URL: http://direct.xilinx.com/bvdocs/notifications/pdn97008a.pdf
footprint WC68_N (Leaded Chip Carrier, 68-Leads, Body 24x24mm, Pitch 1.27mm, IPC Medium Density)
footprint WC68_L (Leaded Chip Carrier, 68-Leads, Body 24x24mm, Pitch 1.27mm, IPC High Density)
footprint WC68_M (Leaded Chip Carrier, 68-Leads, Body 24x24mm, Pitch 1.27mm, IPC Low Density)
3D model XC7354-WC68 (68-Pin Window Ceramic Leaded Chip Carrier (WC68))
pins: 1 I/FI~{/MR} (in), 2 I/FI (in), 3 I/FI (in), 4 I/FO/MC1-1 (io), 5 I/FI (in), 6 I/O/FI/MC6-7 (io), 7 GND (power), 8 O/FCLK0/MC6-3 (io), 9 O/FCLK1/MC6-4 (io), 10 O/FCLK2/MC6-5 (io), 11 I/FI (in), 12 I/FO/MC1-2 (io), 13 I/FO/MC1-3 (io), 14 GND (power), 15 I/FO/MC1-4 (io), 16 I/O/MC5-5 (io), 17 I/FO/MC1-5 (io), 18 I/O/MC5-6 (io), 19 I/FO/MC1-6 (io), 20 VCCIO (power), 21 I/FO/MC1-7 (io), 22 I/FO/MC1-8 (io), 23 I/FO/MC1-9 (io), 24 I/O/FI/MC6-8 (io), 25 I/O/FI/MC5-7 (io), 26 I/O/FI/MC6-9 (io), 27 I/O/FI/MC6-1 (io), 28 I/O/FI/MC6-2 (io), 29 I/O/FI/MC6-6 (io), 30 VCCINT (power), 31 I/O/FI/MC5-8 (io), 32 I/O/MC5-1 (io), 33 I/O/MC5-2 (io), 34 GND (power), 35 I/O/MC5-3 (io), 36 I/O/FI/MC5-9 (io), 37 I/O/MC5-4 (io), 38 I/O/MC4-1 (io), 39 I/O/FI/MC4-7 (io), 40 I/O/FI/MC4-8 (io), 41 GND (power), 42 I/O/FI/MC4-9 (io), 43 I/FI (in), 44 I/O/FI/MC3-7 (io), 45 I/O/FI/MC3-8 (io), 46 I/FO/MC2-9 (io), 47 I/O/FI/MC3-9 (io), 48 I/FO/MC2-8 (io), 49 GND (power), 50 VCCIO (power), 51 I/FO/MC2-7 (io), 52 I/FO/MC2-6 (io), 53 I/O/MC4-2 (io), 54 I/O/MC4-3 (io), 55 I/FO/MC2-5 (io), 56 I/FO/MC2-4 (io), 57 I/FO/MC2-3 (io), 58 I/FO/MC2-2 (io), 59 VCCINT (power), 60 O/~{CKEN0}/MC3-3 (io), 61 O/~{CKEN1}/MC3-4 (io), 62 O/FOE0/MC3-5 (io), 63 VCCINT/VPP (power), 64 O/FOE1/MC3-6 (io), 65 I/FI (in), 66 I/FO/MC2-1 (io), 67 I/FI (in), 68 I/FI (in)

## XC7372-7PC68C
designator U?
72 Macrocell CMOS EPLD, with 25 I/O Pins, 68-Pin PLCC, Commercial Grade; Published: 8-Jun-2000; LatestRevisionDate: 13-Apr-2006; LatestRevisionNote: IPC-7351 Footprint Added.; DatasheetVersion: 1994; PackageVersion: ver1.2, Jun-2004; PackageReference: PC68; Publisher: Altium Limited; PackageDescription: 68-Pin Plastic Leaded Chip Carrier (PC68); Code_JEDEC: MO-047; Code_IPC: PLCC-68; ComponentLink1Description: Manufacturer Link; ComponentLink1URL: http://www.xilinx.com/; ComponentLink2Description: Discontinuation Notice; ComponentLink2URL: http://direct.xilinx.com/bvdocs/notifications/pdn97008a.pdf
footprint PC68_N (Leaded Chip Carrier, 68-Leads, Body 24x24mm, Pitch 1.27mm, IPC Medium Density)
footprint PC68_L (Leaded Chip Carrier, 68-Leads, Body 24x24mm, Pitch 1.27mm, IPC High Density)
footprint PC68_M (Leaded Chip Carrier, 68-Leads, Body 24x24mm, Pitch 1.27mm, IPC Low Density)
3D model XC7372-PC68 (68-Pin Plastic Leaded Chip Carrier (PC68))
pins: 1 ~{MR}, 2 I/FI (in), 3 I/FI (in), 4 I/FI (in), 5 I/FI (in), 6 I/FI (in), 7 GND (power), 8 O/FCLK0/MC8-3 (io), 9 O/FCLK1/MC8-4 (io), 10 O/FCLK2/MC8-5 (io), 11 FO/MC1-2 (io), 12 FO/MC1-3 (io), 13 FO/MC1-4 (io), 14 GND (power), 15 FO/MC1-5 (io), 16 FO/MC1-6 (io), 17 FO/MC1-7 (io), 18 FO/MC1-8 (io), 19 FO/MC1-9 (io), 20 VCCIO (power), 21 I/O/MC7-6 (io), 22 I/O/FI/MC7-7 (io), 23 I/O/F1/MC7-8 (io), 24 I/O/FI/MC7-9 (io), 25 I/O/MC6-1 (io), 26 I/O/MC6-2 (io), 27 I/O/MC6-3 (io), 28 I/O/MC6-4 (io), 29 I/O/MC6-5 (io), 30 VCCINT (power), 31 I/O/MC6-6 (io), 32 I/O/FI/MC6-7 (io), 33 I/O/FI/MC6-8 (io), 34 GND (power), 35 I/O/FI/MC6-9 (io), 36 I/O/MC5-1 (io), 37 I/O/MC5-2 (io), 38 I/O/MC5-3 (io), 39 I/O/MC5-4 (io), 40 I/O/MC5-5 (io), 41 GND (power), 42 I/O/MC5-6 (io), 43 I/O/FI/MC5-7 (io), 44 I/O/FI/MC5-8 (io), 45 I/O/FI/MC5-9 (io), 46 I/O/MC4-1 (io), 47 I/O/MC4-2 (io), 48 I/O/MC4-3 (io), 49 GND (power), 50 VCCIO (power), 51 FO/MC2-9 (io), 52 FO/MC2-8 (io), 53 FO/MC2-7 (io), 54 FO/MC2-6 (io), 55 FO/MC2-5 (io), 56 FO/MC2-4 (io), 57 FO/MC2-3 (io), 58 FO/MC2-2 (io), 59 VCCINT (power), 60 O/~{CKEN0}/MC3-3 (io), 61 O/~{CKEN1}/MC3-4 (io), 62 O/FOE0/MC3-5 (io), 63 VCCINT/VPP (power), 64 I/FI (in), 65 I/FI (in), 66 I/FI (in), 67 I/FI (in), 68 I/FI (in)

## XC7372-7PC84C
designator U?
72 Macrocell CMOS EPLD, with 37 I/O Pins, 84-Pin PLCC, Commercial Grade; Published: 8-Jun-2000; LatestRevisionDate: 13-Apr-2006; LatestRevisionNote: IPC-7351 Footprint Added.; DatasheetVersion: 1994; PackageVersion: ver1.2, Jun-2004; PackageReference: PC84; Publisher: Altium Limited; PackageDescription: 84-Pin Plastic Leaded Chip Carrier (PC84); Code_JEDEC: MS-047; Code_IPC: PLCC-84; ComponentLink1Description: Manufacturer Link; ComponentLink1URL: http://www.xilinx.com/; ComponentLink2Description: Discontinuation Notice; ComponentLink2URL: http://direct.xilinx.com/bvdocs/notifications/pdn97008a.pdf
footprint PC84_N (Leaded Chip Carrier, 84-Leads, Body 29.3x29.3mm, Pitch 1.27mm, IPC Medium Density)
footprint PC84_L (Leaded Chip Carrier, 84-Leads, Body 29.3x29.3mm, Pitch 1.27mm, IPC High Density)
footprint PC84_M (Leaded Chip Carrier, 84-Leads, Body 29.3x29.3mm, Pitch 1.27mm, IPC Low Density)
3D model XC7372-PC84 (84-Pin Plastic Leaded Chip Carrier (PC84))
pins: 1 ~{MR}, 2 I/FI (in), 3 I/FI (in), 4 I/FI (in), 5 I/FI (in), 6 I/FI (in), 7 I/FI (in), 8 GND (power), 9 O/FCLK0/MC8-3 (io), 10 O/FCLK1/MC8-4 (io), 11 I/O/FI/MC8-9 (io), 12 O/FCLK2/MC8-5 (io), 13 FO/MC1-2 (io), 14 FO/MC1-3 (io), 15 FO/MC1-4 (io), 16 GND (power), 17 FO/MC1-5 (io), 18 FO/MC1-6 (io), 19 FO/MC1-7 (io), 20 FO/MC1-8 (io), 21 FO/MC1-9 (io), 22 VCCIO (power), 23 I/O/MC7-1 (io), 24 I/O/MC7-2 (io), 25 I/O/MC7-3 (io), 26 I/O/MC7-6 (io), 27 GND (power), 28 I/O/FI/MC7-7 (io), 29 I/O/FI/MC7-8 (io), 30 I/O/FI/MC7-9 (io), 31 I/O/MC6-1 (io), 32 I/O/MC6-2 (io), 33 I/O/MC6-3 (io), 34 I/O/MC7-4 (io), 35 I/O/MC7-5 (io), 36 I/O/MC6-4 (io), 37 I/O/MC6-5 (io), 38 VCCINT (power), 39 I/O/MC6-6 (io), 40 I/O/FI/MC6-7 (io), 41 I/O/FI/MC6-8 (io), 42 GND (power), 43 I/O/FI/MC6-9 (io), 44 I/O/MC5-1 (io), 45 I/O/MC5-2 (io), 46 I/O/MC5-3 (io), 47 I/O/MC5-4 (io), 48 I/O/MC5-5 (io), 49 GND (power), 50 I/O/MC5-6 (io), 51 I/O/MC4-5 (io), 52 I/O/MC4-4 (io), 53 I/O/FI/MC5-7 (io), 54 I/O/FI/MC5-8 (io), 55 I/O/FI/MC5-9 (io), 56 I/O/MC4-1 (io), 57 I/O/MC4-2 (io), 58 I/O/MC4-6 (io), 59 I/O/MC4-3 (io), 60 GND (power), 61 I/O/FI/MC4-7 (io), 62 I/O/FI/MC4-8 (io), 63 I/O/FI/MC4-9 (io), 64 VCCIO (power), 65 FO/MC2-9 (io), 66 FO/MC2-8 (io), 67 FO/MC2-7 (io), 68 FO/MC2-6 (io), 69 FO/MC2-5 (io), 70 FO/MC2-4 (io), 71 FO/MC2-3 (io), 72 FO/MC2-2 (io), 73 VCCINT (power), 74 O/~{CKEN0}/MC3-3 (io), 75 O/~{CKEN1}/MC3-4 (io), 76 O/FOE0/MC3-5 (io), 77 O/FOE1/MC3-6 (io), 78 VCCINT/VPP (power), 79 I/FI (in), 80 I/FI (in), 81 I/FI (in), 82 I/FI (in), 83 I/FI (in), 84 I/FI (in)

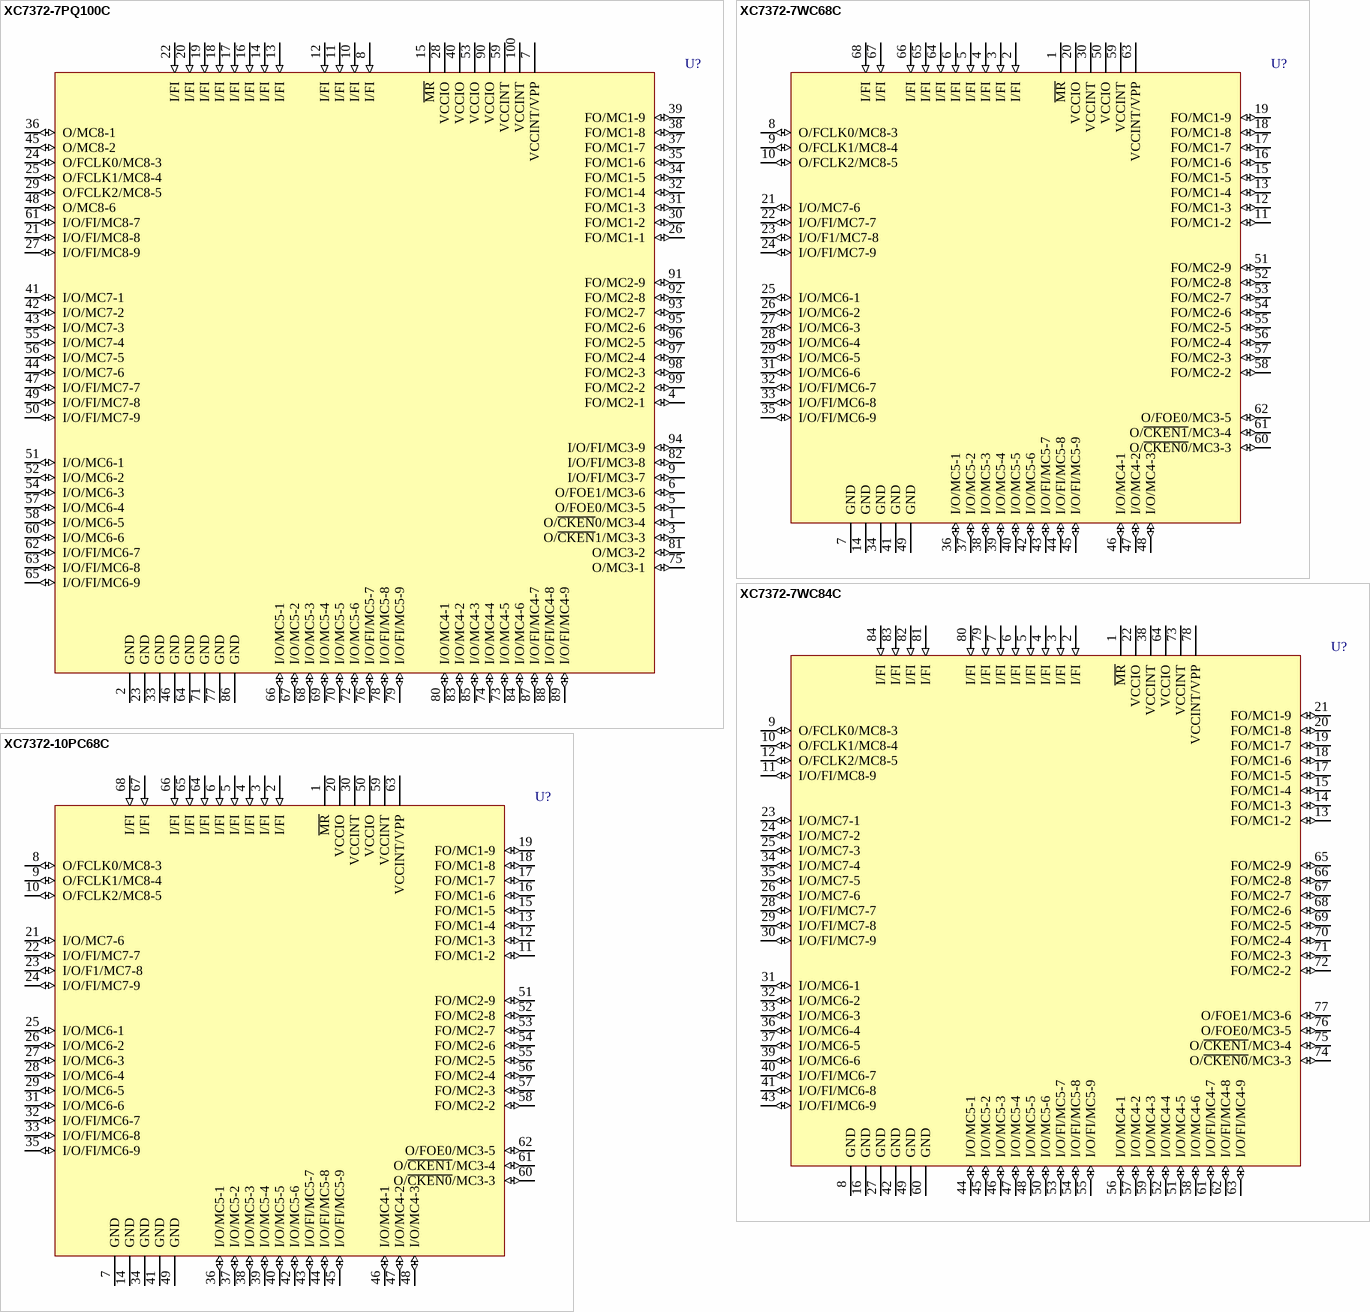
[diagram p20: symbols XC7372-7PQ100C to XC7372-10PC68C]

## XC7372-7PQ100C
designator U?
72 Macrocell CMOS EPLD, with 42 I/O Pins, 100-Pin PQFP, Commercial Grade; Published: 8-Jun-2000; LatestRevisionDate: 13-Apr-2006; LatestRevisionNote: IPC-7351 Footprint Added.; DatasheetVersion: 1994; PackageVersion: ver1.2, Oct-2002; PackageReference: PQ100; Publisher: Altium Limited; PackageDescription: 100-Pin Plastic Quad Flat Pack (PQ100); Code_IPC: QFP65P1720X2320-100; ComponentLink1Description: Manufacturer Link; ComponentLink1URL: http://www.xilinx.com/; ComponentLink2Description: Discontinuation Notice; ComponentLink2URL: http://direct.xilinx.com/bvdocs/notifications/pdn97008a.pdf
footprint PQ100_N (QFP, 100-Leads, Body 20x14mm, Pitch 0.65mm, IPC Medium Density)
footprint PQ100_L (QFP, 100-Leads, Body 20x14mm, Pitch 0.65mm, IPC High Density)
footprint PQ100_M (QFP, 100-Leads, Body 20x14mm, Pitch 0.65mm, IPC Low Density)
3D model XC7372-PQ100 (100-Pin Plastic Quad Flat Pack (PQ100))
pins: 1 O/~{CKEN}0/MC3-4 (io), 2 GND (power), 3 O/~{CKEN}1/MC3-3 (io), 4 FO/MC2-1 (io), 5 O/FOE0/MC3-5 (io), 6 O/FOE1/MC3-6 (io), 7 VCCINT/VPP (power), 8 I/FI (in), 9 I/O/FI/MC3-7 (io), 10 I/FI (in), 11 I/FI (in), 12 I/FI (in), 13 I/FI (in), 14 I/FI (in), 15 ~{MR}, 16 I/FI (in), 17 I/FI (in), 18 I/FI (in), 19 I/FI (in), 20 I/FI (in), 21 I/O/FI/MC8-8 (io), 22 I/FI (in), 23 GND (power), 24 O/FCLK0/MC8-3 (io), 25 O/FCLK1/MC8-4 (io), 26 FO/MC1-1 (io), 27 I/O/FI/MC8-9 (io), 28 VCCIO (power), 29 O/FCLK2/MC8-5 (io), 30 FO/MC1-2 (io), 31 FO/MC1-3 (io), 32 FO/MC1-4 (io), 33 GND (power), 34 FO/MC1-5 (io), 35 FO/MC1-6 (io), 36 O/MC8-1 (io), 37 FO/MC1-7 (io), 38 FO/MC1-8 (io), 39 FO/MC1-9 (io), 40 VCCIO (power), 41 I/O/MC7-1 (io), 42 I/O/MC7-2 (io), 43 I/O/MC7-3 (io), 44 I/O/MC7-6 (io), 45 O/MC8-2 (io), 46 GND (power), 47 I/O/FI/MC7-7 (io), 48 O/MC8-6 (io), 49 I/O/FI/MC7-8 (io), 50 I/O/FI/MC7-9 (io), 51 I/O/MC6-1 (io), 52 I/O/MC6-2 (io), 53 VCCIO (power), 54 I/O/MC6-3 (io), 55 I/O/MC7-4 (io), 56 I/O/MC7-5 (io), 57 I/O/MC6-4 (io), 58 I/O/MC6-5 (io), 59 VCCINT (power), 60 I/O/MC6-6 (io), 61 I/O/FI/MC8-7 (io), 62 I/O/FI/MC6-7 (io), 63 I/O/FI/MC6-8 (io), 64 GND (power), 65 I/O/FI/MC6-9 (io), 66 I/O/MC5-1 (io), 67 I/O/MC5-2 (io), 68 I/O/MC5-3 (io), 69 I/O/MC5-4 (io), 70 I/O/MC5-5 (io), 71 GND (power), 72 I/O/MC5-6 (io), 73 I/O/MC4-5 (io), 74 I/O/MC4-4 (io), 75 O/MC3-1 (io), 76 I/O/FI/MC5-7 (io), 77 GND (power), 78 I/O/FI/MC5-8 (io), 79 I/O/FI/MC5-9 (io), 80 I/O/MC4-1 (io), 81 O/MC3-2 (io), 82 I/O/FI/MC3-8 (io), 83 I/O/MC4-2 (io), 84 I/O/MC4-6 (io), 85 I/O/MC4-3 (io), 86 GND (power), 87 I/O/FI/MC4-7 (io), 88 I/O/FI/MC4-8 (io), 89 I/O/FI/MC4-9 (io), 90 VCCIO (power), 91 FO/MC2-9 (io), 92 FO/MC2-8 (io), 93 FO/MC2-7 (io), 94 I/O/FI/MC3-9 (io), 95 FO/MC2-6 (io), 96 FO/MC2-5 (io), 97 FO/MC2-4 (io), 98 FO/MC2-3 (io), 99 FO/MC2-2 (io), 100 VCCINT (power)

## XC7372-7WC68C
designator U?
72 Macrocell CMOS EPLD, with 25 I/O Pins, 68-Pin CLCC, Commercial Grade; Published: 8-Jun-2000; LatestRevisionDate: 13-Apr-2006; LatestRevisionNote: IPC-7351 Footprint Added.; DatasheetVersion: 1994; PackageVersion: 1994; PackageReference: WC68; Publisher: Altium Limited; PackageDescription: 68-Pin Window Ceramic Leaded Chip Carrier (WC68); Code_IPC: PLCC-68; ComponentLink1Description: Manufacturer Link; ComponentLink1URL: http://www.xilinx.com/; ComponentLink2Description: Discontinuation Notice; ComponentLink2URL: http://direct.xilinx.com/bvdocs/notifications/pdn97008a.pdf
footprint WC68_N (Leaded Chip Carrier, 68-Leads, Body 24x24mm, Pitch 1.27mm, IPC Medium Density)
footprint WC68_L (Leaded Chip Carrier, 68-Leads, Body 24x24mm, Pitch 1.27mm, IPC High Density)
footprint WC68_M (Leaded Chip Carrier, 68-Leads, Body 24x24mm, Pitch 1.27mm, IPC Low Density)
3D model XC7372-WC68 (68-Pin Window Ceramic Leaded Chip Carrier (WC68))
pins: 1 ~{MR}, 2 I/FI (in), 3 I/FI (in), 4 I/FI (in), 5 I/FI (in), 6 I/FI (in), 7 GND (power), 8 O/FCLK0/MC8-3 (io), 9 O/FCLK1/MC8-4 (io), 10 O/FCLK2/MC8-5 (io), 11 FO/MC1-2 (io), 12 FO/MC1-3 (io), 13 FO/MC1-4 (io), 14 GND (power), 15 FO/MC1-5 (io), 16 FO/MC1-6 (io), 17 FO/MC1-7 (io), 18 FO/MC1-8 (io), 19 FO/MC1-9 (io), 20 VCCIO (power), 21 I/O/MC7-6 (io), 22 I/O/FI/MC7-7 (io), 23 I/O/F1/MC7-8 (io), 24 I/O/FI/MC7-9 (io), 25 I/O/MC6-1 (io), 26 I/O/MC6-2 (io), 27 I/O/MC6-3 (io), 28 I/O/MC6-4 (io), 29 I/O/MC6-5 (io), 30 VCCINT (power), 31 I/O/MC6-6 (io), 32 I/O/FI/MC6-7 (io), 33 I/O/FI/MC6-8 (io), 34 GND (power), 35 I/O/FI/MC6-9 (io), 36 I/O/MC5-1 (io), 37 I/O/MC5-2 (io), 38 I/O/MC5-3 (io), 39 I/O/MC5-4 (io), 40 I/O/MC5-5 (io), 41 GND (power), 42 I/O/MC5-6 (io), 43 I/O/FI/MC5-7 (io), 44 I/O/FI/MC5-8 (io), 45 I/O/FI/MC5-9 (io), 46 I/O/MC4-1 (io), 47 I/O/MC4-2 (io), 48 I/O/MC4-3 (io), 49 GND (power), 50 VCCIO (power), 51 FO/MC2-9 (io), 52 FO/MC2-8 (io), 53 FO/MC2-7 (io), 54 FO/MC2-6 (io), 55 FO/MC2-5 (io), 56 FO/MC2-4 (io), 57 FO/MC2-3 (io), 58 FO/MC2-2 (io), 59 VCCINT (power), 60 O/~{CKEN0}/MC3-3 (io), 61 O/~{CKEN1}/MC3-4 (io), 62 O/FOE0/MC3-5 (io), 63 VCCINT/VPP (power), 64 I/FI (in), 65 I/FI (in), 66 I/FI (in), 67 I/FI (in), 68 I/FI (in)

## XC7372-7WC84C
designator U?
72 Macrocell CMOS EPLD, with 37 I/O Pins, 84-Pin CLCC, Commercial Grade; Published: 8-Jun-2000; LatestRevisionDate: 13-Apr-2006; LatestRevisionNote: IPC-7351 Footprint Added.; DatasheetVersion: 1994; PackageVersion: 1994; PackageReference: WC84; Publisher: Altium Limited; PackageDescription: 84-Pin Window Ceramic Leaded Chip Carrier (WC84); Code_IPC: PLCC-84; ComponentLink1Description: Manufacturer Link; ComponentLink1URL: http://www.xilinx.com/; ComponentLink2Description: Discontinuation Notice; ComponentLink2URL: http://direct.xilinx.com/bvdocs/notifications/pdn97008a.pdf
footprint WC84_N (Leaded Chip Carrier, 84-Leads, Body 29x29mm, Pitch 1.27mm, IPC Medium Density)
footprint WC84_L (Leaded Chip Carrier, 84-Leads, Body 29x29mm, Pitch 1.27mm, IPC High Density)
footprint WC84_M (Leaded Chip Carrier, 84-Leads, Body 29x29mm, Pitch 1.27mm, IPC Low Density)
3D model XC7372-WC84 (84-Pin Window Ceramic Leaded Chip Carrier (WC84))
pins: 1 ~{MR}, 2 I/FI (in), 3 I/FI (in), 4 I/FI (in), 5 I/FI (in), 6 I/FI (in), 7 I/FI (in), 8 GND (power), 9 O/FCLK0/MC8-3 (io), 10 O/FCLK1/MC8-4 (io), 11 I/O/FI/MC8-9 (io), 12 O/FCLK2/MC8-5 (io), 13 FO/MC1-2 (io), 14 FO/MC1-3 (io), 15 FO/MC1-4 (io), 16 GND (power), 17 FO/MC1-5 (io), 18 FO/MC1-6 (io), 19 FO/MC1-7 (io), 20 FO/MC1-8 (io), 21 FO/MC1-9 (io), 22 VCCIO (power), 23 I/O/MC7-1 (io), 24 I/O/MC7-2 (io), 25 I/O/MC7-3 (io), 26 I/O/MC7-6 (io), 27 GND (power), 28 I/O/FI/MC7-7 (io), 29 I/O/FI/MC7-8 (io), 30 I/O/FI/MC7-9 (io), 31 I/O/MC6-1 (io), 32 I/O/MC6-2 (io), 33 I/O/MC6-3 (io), 34 I/O/MC7-4 (io), 35 I/O/MC7-5 (io), 36 I/O/MC6-4 (io), 37 I/O/MC6-5 (io), 38 VCCINT (power), 39 I/O/MC6-6 (io), 40 I/O/FI/MC6-7 (io), 41 I/O/FI/MC6-8 (io), 42 GND (power), 43 I/O/FI/MC6-9 (io), 44 I/O/MC5-1 (io), 45 I/O/MC5-2 (io), 46 I/O/MC5-3 (io), 47 I/O/MC5-4 (io), 48 I/O/MC5-5 (io), 49 GND (power), 50 I/O/MC5-6 (io), 51 I/O/MC4-5 (io), 52 I/O/MC4-4 (io), 53 I/O/FI/MC5-7 (io), 54 I/O/FI/MC5-8 (io), 55 I/O/FI/MC5-9 (io), 56 I/O/MC4-1 (io), 57 I/O/MC4-2 (io), 58 I/O/MC4-6 (io), 59 I/O/MC4-3 (io), 60 GND (power), 61 I/O/FI/MC4-7 (io), 62 I/O/FI/MC4-8 (io), 63 I/O/FI/MC4-9 (io), 64 VCCIO (power), 65 FO/MC2-9 (io), 66 FO/MC2-8 (io), 67 FO/MC2-7 (io), 68 FO/MC2-6 (io), 69 FO/MC2-5 (io), 70 FO/MC2-4 (io), 71 FO/MC2-3 (io), 72 FO/MC2-2 (io), 73 VCCINT (power), 74 O/~{CKEN0}/MC3-3 (io), 75 O/~{CKEN1}/MC3-4 (io), 76 O/FOE0/MC3-5 (io), 77 O/FOE1/MC3-6 (io), 78 VCCINT/VPP (power), 79 I/FI (in), 80 I/FI (in), 81 I/FI (in), 82 I/FI (in), 83 I/FI (in), 84 I/FI (in)

## XC7372-10PC68C
designator U?
72 Macrocell CMOS EPLD, with 25 I/O Pins, 68-Pin PLCC, Commercial Grade; Published: 8-Jun-2000; LatestRevisionDate: 13-Apr-2006; LatestRevisionNote: IPC-7351 Footprint Added.; DatasheetVersion: 1994; PackageVersion: ver1.2, Jun-2004; PackageReference: PC68; Publisher: Altium Limited; PackageDescription: 68-Pin Plastic Leaded Chip Carrier (PC68); Code_JEDEC: MO-047; Code_IPC: PLCC-68; ComponentLink1Description: Manufacturer Link; ComponentLink1URL: http://www.xilinx.com/; ComponentLink2Description: Discontinuation Notice; ComponentLink2URL: http://direct.xilinx.com/bvdocs/notifications/pdn97008a.pdf
footprint PC68_N (Leaded Chip Carrier, 68-Leads, Body 24x24mm, Pitch 1.27mm, IPC Medium Density)
footprint PC68_L (Leaded Chip Carrier, 68-Leads, Body 24x24mm, Pitch 1.27mm, IPC High Density)
footprint PC68_M (Leaded Chip Carrier, 68-Leads, Body 24x24mm, Pitch 1.27mm, IPC Low Density)
3D model XC7372-PC68 (68-Pin Plastic Leaded Chip Carrier (PC68))
pins: 1 ~{MR}, 2 I/FI (in), 3 I/FI (in), 4 I/FI (in), 5 I/FI (in), 6 I/FI (in), 7 GND (power), 8 O/FCLK0/MC8-3 (io), 9 O/FCLK1/MC8-4 (io), 10 O/FCLK2/MC8-5 (io), 11 FO/MC1-2 (io), 12 FO/MC1-3 (io), 13 FO/MC1-4 (io), 14 GND (power), 15 FO/MC1-5 (io), 16 FO/MC1-6 (io), 17 FO/MC1-7 (io), 18 FO/MC1-8 (io), 19 FO/MC1-9 (io), 20 VCCIO (power), 21 I/O/MC7-6 (io), 22 I/O/FI/MC7-7 (io), 23 I/O/F1/MC7-8 (io), 24 I/O/FI/MC7-9 (io), 25 I/O/MC6-1 (io), 26 I/O/MC6-2 (io), 27 I/O/MC6-3 (io), 28 I/O/MC6-4 (io), 29 I/O/MC6-5 (io), 30 VCCINT (power), 31 I/O/MC6-6 (io), 32 I/O/FI/MC6-7 (io), 33 I/O/FI/MC6-8 (io), 34 GND (power), 35 I/O/FI/MC6-9 (io), 36 I/O/MC5-1 (io), 37 I/O/MC5-2 (io), 38 I/O/MC5-3 (io), 39 I/O/MC5-4 (io), 40 I/O/MC5-5 (io), 41 GND (power), 42 I/O/MC5-6 (io), 43 I/O/FI/MC5-7 (io), 44 I/O/FI/MC5-8 (io), 45 I/O/FI/MC5-9 (io), 46 I/O/MC4-1 (io), 47 I/O/MC4-2 (io), 48 I/O/MC4-3 (io), 49 GND (power), 50 VCCIO (power), 51 FO/MC2-9 (io), 52 FO/MC2-8 (io), 53 FO/MC2-7 (io), 54 FO/MC2-6 (io), 55 FO/MC2-5 (io), 56 FO/MC2-4 (io), 57 FO/MC2-3 (io), 58 FO/MC2-2 (io), 59 VCCINT (power), 60 O/~{CKEN0}/MC3-3 (io), 61 O/~{CKEN1}/MC3-4 (io), 62 O/FOE0/MC3-5 (io), 63 VCCINT/VPP (power), 64 I/FI (in), 65 I/FI (in), 66 I/FI (in), 67 I/FI (in), 68 I/FI (in)

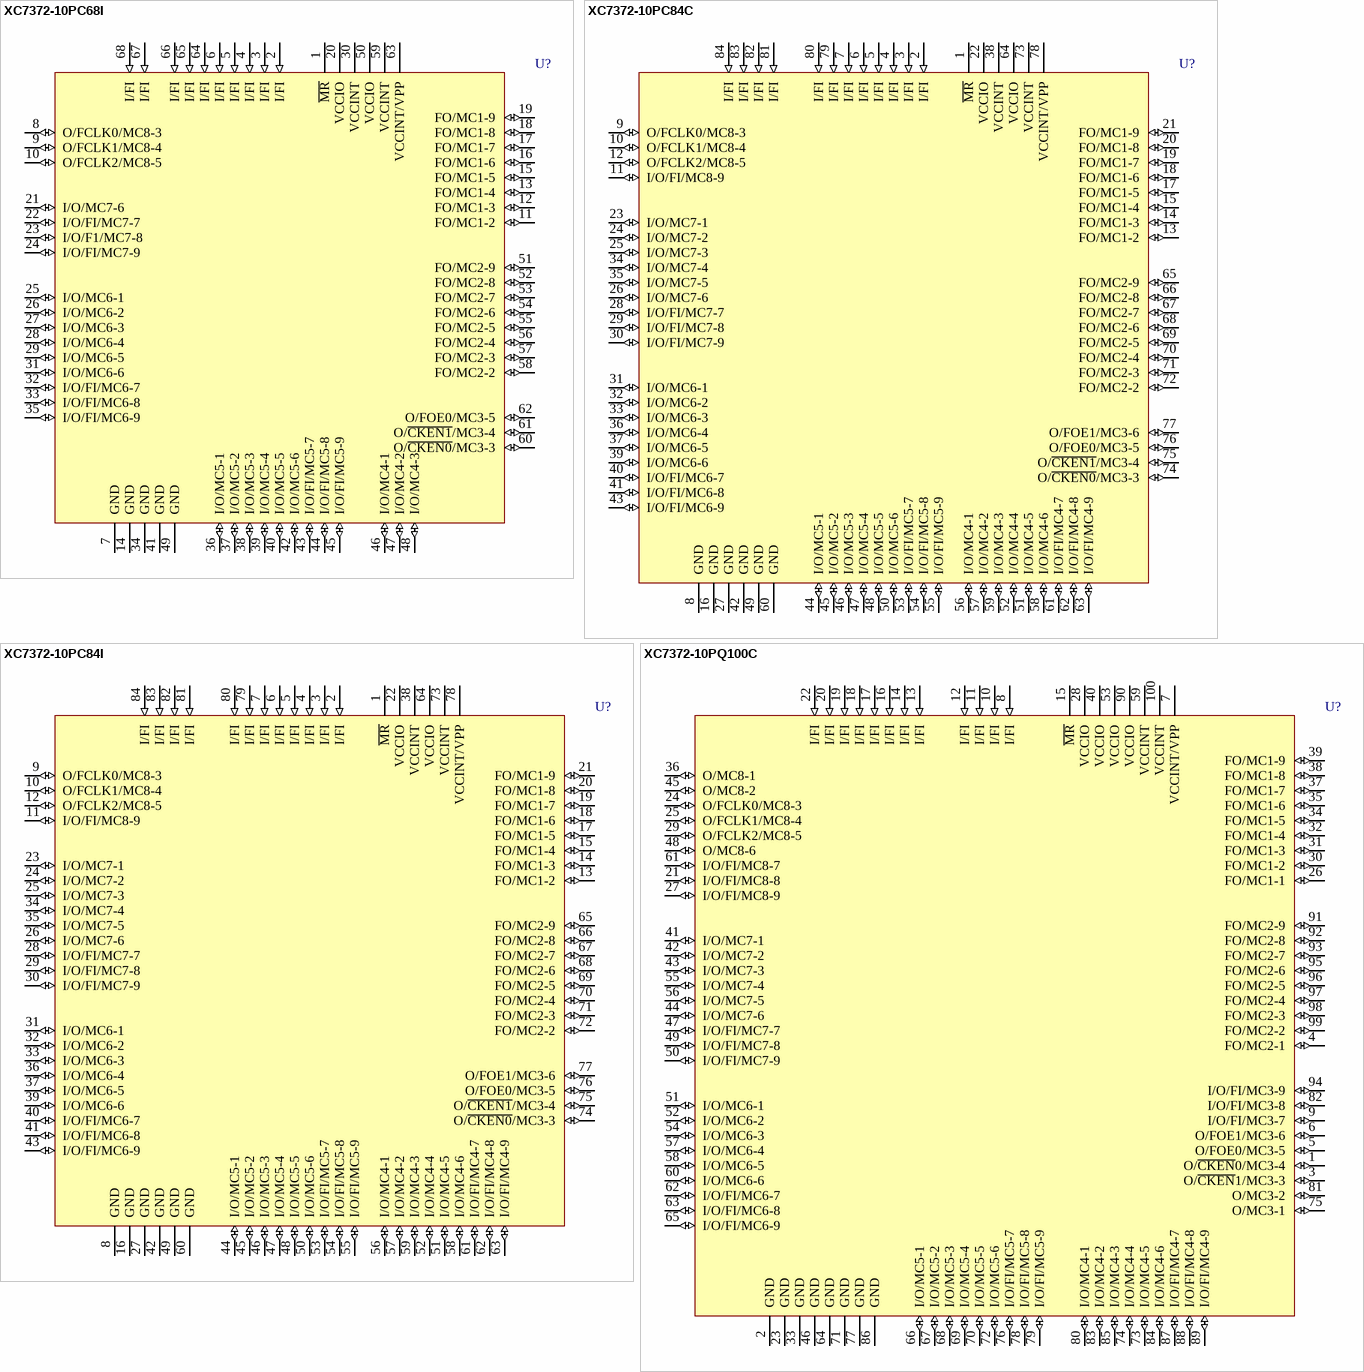
[diagram p21: symbols XC7372-10PC68I to XC7372-10PQ100C]

## XC7372-10PC68I
designator U?
72 Macrocell CMOS EPLD, with 25 I/O Pins, 68-Pin PLCC, Industrial Grade; Published: 8-Jun-2000; LatestRevisionDate: 13-Apr-2006; LatestRevisionNote: IPC-7351 Footprint Added.; DatasheetVersion: 1994; PackageVersion: ver1.2, Jun-2004; PackageReference: PC68; Publisher: Altium Limited; PackageDescription: 68-Pin Plastic Leaded Chip Carrier (PC68); Code_JEDEC: MO-047; Code_IPC: PLCC-68; ComponentLink1Description: Manufacturer Link; ComponentLink1URL: http://www.xilinx.com/; ComponentLink2Description: Discontinuation Notice; ComponentLink2URL: http://direct.xilinx.com/bvdocs/notifications/pdn97008a.pdf
footprint PC68_N (Leaded Chip Carrier, 68-Leads, Body 24x24mm, Pitch 1.27mm, IPC Medium Density)
footprint PC68_L (Leaded Chip Carrier, 68-Leads, Body 24x24mm, Pitch 1.27mm, IPC High Density)
footprint PC68_M (Leaded Chip Carrier, 68-Leads, Body 24x24mm, Pitch 1.27mm, IPC Low Density)
3D model XC7372-PC68 (68-Pin Plastic Leaded Chip Carrier (PC68))
pins: 1 ~{MR}, 2 I/FI (in), 3 I/FI (in), 4 I/FI (in), 5 I/FI (in), 6 I/FI (in), 7 GND (power), 8 O/FCLK0/MC8-3 (io), 9 O/FCLK1/MC8-4 (io), 10 O/FCLK2/MC8-5 (io), 11 FO/MC1-2 (io), 12 FO/MC1-3 (io), 13 FO/MC1-4 (io), 14 GND (power), 15 FO/MC1-5 (io), 16 FO/MC1-6 (io), 17 FO/MC1-7 (io), 18 FO/MC1-8 (io), 19 FO/MC1-9 (io), 20 VCCIO (power), 21 I/O/MC7-6 (io), 22 I/O/FI/MC7-7 (io), 23 I/O/F1/MC7-8 (io), 24 I/O/FI/MC7-9 (io), 25 I/O/MC6-1 (io), 26 I/O/MC6-2 (io), 27 I/O/MC6-3 (io), 28 I/O/MC6-4 (io), 29 I/O/MC6-5 (io), 30 VCCINT (power), 31 I/O/MC6-6 (io), 32 I/O/FI/MC6-7 (io), 33 I/O/FI/MC6-8 (io), 34 GND (power), 35 I/O/FI/MC6-9 (io), 36 I/O/MC5-1 (io), 37 I/O/MC5-2 (io), 38 I/O/MC5-3 (io), 39 I/O/MC5-4 (io), 40 I/O/MC5-5 (io), 41 GND (power), 42 I/O/MC5-6 (io), 43 I/O/FI/MC5-7 (io), 44 I/O/FI/MC5-8 (io), 45 I/O/FI/MC5-9 (io), 46 I/O/MC4-1 (io), 47 I/O/MC4-2 (io), 48 I/O/MC4-3 (io), 49 GND (power), 50 VCCIO (power), 51 FO/MC2-9 (io), 52 FO/MC2-8 (io), 53 FO/MC2-7 (io), 54 FO/MC2-6 (io), 55 FO/MC2-5 (io), 56 FO/MC2-4 (io), 57 FO/MC2-3 (io), 58 FO/MC2-2 (io), 59 VCCINT (power), 60 O/~{CKEN0}/MC3-3 (io), 61 O/~{CKEN1}/MC3-4 (io), 62 O/FOE0/MC3-5 (io), 63 VCCINT/VPP (power), 64 I/FI (in), 65 I/FI (in), 66 I/FI (in), 67 I/FI (in), 68 I/FI (in)

## XC7372-10PC84C
designator U?
72 Macrocell CMOS EPLD, with 37 I/O Pins, 84-Pin PLCC, Commercial Grade; Published: 8-Jun-2000; LatestRevisionDate: 13-Apr-2006; LatestRevisionNote: IPC-7351 Footprint Added.; DatasheetVersion: 1994; PackageVersion: ver1.2, Jun-2004; PackageReference: PC84; Publisher: Altium Limited; PackageDescription: 84-Pin Plastic Leaded Chip Carrier (PC84); Code_JEDEC: MS-047; Code_IPC: PLCC-84; ComponentLink1Description: Manufacturer Link; ComponentLink1URL: http://www.xilinx.com/; ComponentLink2Description: Discontinuation Notice; ComponentLink2URL: http://direct.xilinx.com/bvdocs/notifications/pdn97008a.pdf
footprint PC84_N (Leaded Chip Carrier, 84-Leads, Body 29.3x29.3mm, Pitch 1.27mm, IPC Medium Density)
footprint PC84_L (Leaded Chip Carrier, 84-Leads, Body 29.3x29.3mm, Pitch 1.27mm, IPC High Density)
footprint PC84_M (Leaded Chip Carrier, 84-Leads, Body 29.3x29.3mm, Pitch 1.27mm, IPC Low Density)
3D model XC7372-PC84 (84-Pin Plastic Leaded Chip Carrier (PC84))
pins: 1 ~{MR}, 2 I/FI (in), 3 I/FI (in), 4 I/FI (in), 5 I/FI (in), 6 I/FI (in), 7 I/FI (in), 8 GND (power), 9 O/FCLK0/MC8-3 (io), 10 O/FCLK1/MC8-4 (io), 11 I/O/FI/MC8-9 (io), 12 O/FCLK2/MC8-5 (io), 13 FO/MC1-2 (io), 14 FO/MC1-3 (io), 15 FO/MC1-4 (io), 16 GND (power), 17 FO/MC1-5 (io), 18 FO/MC1-6 (io), 19 FO/MC1-7 (io), 20 FO/MC1-8 (io), 21 FO/MC1-9 (io), 22 VCCIO (power), 23 I/O/MC7-1 (io), 24 I/O/MC7-2 (io), 25 I/O/MC7-3 (io), 26 I/O/MC7-6 (io), 27 GND (power), 28 I/O/FI/MC7-7 (io), 29 I/O/FI/MC7-8 (io), 30 I/O/FI/MC7-9 (io), 31 I/O/MC6-1 (io), 32 I/O/MC6-2 (io), 33 I/O/MC6-3 (io), 34 I/O/MC7-4 (io), 35 I/O/MC7-5 (io), 36 I/O/MC6-4 (io), 37 I/O/MC6-5 (io), 38 VCCINT (power), 39 I/O/MC6-6 (io), 40 I/O/FI/MC6-7 (io), 41 I/O/FI/MC6-8 (io), 42 GND (power), 43 I/O/FI/MC6-9 (io), 44 I/O/MC5-1 (io), 45 I/O/MC5-2 (io), 46 I/O/MC5-3 (io), 47 I/O/MC5-4 (io), 48 I/O/MC5-5 (io), 49 GND (power), 50 I/O/MC5-6 (io), 51 I/O/MC4-5 (io), 52 I/O/MC4-4 (io), 53 I/O/FI/MC5-7 (io), 54 I/O/FI/MC5-8 (io), 55 I/O/FI/MC5-9 (io), 56 I/O/MC4-1 (io), 57 I/O/MC4-2 (io), 58 I/O/MC4-6 (io), 59 I/O/MC4-3 (io), 60 GND (power), 61 I/O/FI/MC4-7 (io), 62 I/O/FI/MC4-8 (io), 63 I/O/FI/MC4-9 (io), 64 VCCIO (power), 65 FO/MC2-9 (io), 66 FO/MC2-8 (io), 67 FO/MC2-7 (io), 68 FO/MC2-6 (io), 69 FO/MC2-5 (io), 70 FO/MC2-4 (io), 71 FO/MC2-3 (io), 72 FO/MC2-2 (io), 73 VCCINT (power), 74 O/~{CKEN0}/MC3-3 (io), 75 O/~{CKEN1}/MC3-4 (io), 76 O/FOE0/MC3-5 (io), 77 O/FOE1/MC3-6 (io), 78 VCCINT/VPP (power), 79 I/FI (in), 80 I/FI (in), 81 I/FI (in), 82 I/FI (in), 83 I/FI (in), 84 I/FI (in)

## XC7372-10PC84I
designator U?
72 Macrocell CMOS EPLD, with 37 I/O Pins, 84-Pin PLCC, Industrial Grade; Published: 8-Jun-2000; LatestRevisionDate: 13-Apr-2006; LatestRevisionNote: IPC-7351 Footprint Added.; DatasheetVersion: 1994; PackageVersion: ver1.2, Jun-2004; PackageReference: PC84; Publisher: Altium Limited; PackageDescription: 84-Pin Plastic Leaded Chip Carrier (PC84); Code_JEDEC: MS-047; Code_IPC: PLCC-84; ComponentLink1Description: Manufacturer Link; ComponentLink1URL: http://www.xilinx.com/; ComponentLink2Description: Discontinuation Notice; ComponentLink2URL: http://direct.xilinx.com/bvdocs/notifications/pdn97008a.pdf
footprint PC84_N (Leaded Chip Carrier, 84-Leads, Body 29.3x29.3mm, Pitch 1.27mm, IPC Medium Density)
footprint PC84_L (Leaded Chip Carrier, 84-Leads, Body 29.3x29.3mm, Pitch 1.27mm, IPC High Density)
footprint PC84_M (Leaded Chip Carrier, 84-Leads, Body 29.3x29.3mm, Pitch 1.27mm, IPC Low Density)
3D model XC7372-PC84 (84-Pin Plastic Leaded Chip Carrier (PC84))
pins: 1 ~{MR}, 2 I/FI (in), 3 I/FI (in), 4 I/FI (in), 5 I/FI (in), 6 I/FI (in), 7 I/FI (in), 8 GND (power), 9 O/FCLK0/MC8-3 (io), 10 O/FCLK1/MC8-4 (io), 11 I/O/FI/MC8-9 (io), 12 O/FCLK2/MC8-5 (io), 13 FO/MC1-2 (io), 14 FO/MC1-3 (io), 15 FO/MC1-4 (io), 16 GND (power), 17 FO/MC1-5 (io), 18 FO/MC1-6 (io), 19 FO/MC1-7 (io), 20 FO/MC1-8 (io), 21 FO/MC1-9 (io), 22 VCCIO (power), 23 I/O/MC7-1 (io), 24 I/O/MC7-2 (io), 25 I/O/MC7-3 (io), 26 I/O/MC7-6 (io), 27 GND (power), 28 I/O/FI/MC7-7 (io), 29 I/O/FI/MC7-8 (io), 30 I/O/FI/MC7-9 (io), 31 I/O/MC6-1 (io), 32 I/O/MC6-2 (io), 33 I/O/MC6-3 (io), 34 I/O/MC7-4 (io), 35 I/O/MC7-5 (io), 36 I/O/MC6-4 (io), 37 I/O/MC6-5 (io), 38 VCCINT (power), 39 I/O/MC6-6 (io), 40 I/O/FI/MC6-7 (io), 41 I/O/FI/MC6-8 (io), 42 GND (power), 43 I/O/FI/MC6-9 (io), 44 I/O/MC5-1 (io), 45 I/O/MC5-2 (io), 46 I/O/MC5-3 (io), 47 I/O/MC5-4 (io), 48 I/O/MC5-5 (io), 49 GND (power), 50 I/O/MC5-6 (io), 51 I/O/MC4-5 (io), 52 I/O/MC4-4 (io), 53 I/O/FI/MC5-7 (io), 54 I/O/FI/MC5-8 (io), 55 I/O/FI/MC5-9 (io), 56 I/O/MC4-1 (io), 57 I/O/MC4-2 (io), 58 I/O/MC4-6 (io), 59 I/O/MC4-3 (io), 60 GND (power), 61 I/O/FI/MC4-7 (io), 62 I/O/FI/MC4-8 (io), 63 I/O/FI/MC4-9 (io), 64 VCCIO (power), 65 FO/MC2-9 (io), 66 FO/MC2-8 (io), 67 FO/MC2-7 (io), 68 FO/MC2-6 (io), 69 FO/MC2-5 (io), 70 FO/MC2-4 (io), 71 FO/MC2-3 (io), 72 FO/MC2-2 (io), 73 VCCINT (power), 74 O/~{CKEN0}/MC3-3 (io), 75 O/~{CKEN1}/MC3-4 (io), 76 O/FOE0/MC3-5 (io), 77 O/FOE1/MC3-6 (io), 78 VCCINT/VPP (power), 79 I/FI (in), 80 I/FI (in), 81 I/FI (in), 82 I/FI (in), 83 I/FI (in), 84 I/FI (in)

## XC7372-10PQ100C
designator U?
72 Macrocell CMOS EPLD, with 42 I/O Pins, 100-Pin PQFP, Commercial Grade; Published: 8-Jun-2000; LatestRevisionDate: 13-Apr-2006; LatestRevisionNote: IPC-7351 Footprint Added.; DatasheetVersion: 1994; PackageVersion: ver1.2, Oct-2002; PackageReference: PQ100; Publisher: Altium Limited; PackageDescription: 100-Pin Plastic Quad Flat Pack (PQ100); Code_IPC: QFP65P1720X2320-100; ComponentLink1Description: Manufacturer Link; ComponentLink1URL: http://www.xilinx.com/; ComponentLink2Description: Discontinuation Notice; ComponentLink2URL: http://direct.xilinx.com/bvdocs/notifications/pdn97008a.pdf
footprint PQ100_N (QFP, 100-Leads, Body 20x14mm, Pitch 0.65mm, IPC Medium Density)
footprint PQ100_L (QFP, 100-Leads, Body 20x14mm, Pitch 0.65mm, IPC High Density)
footprint PQ100_M (QFP, 100-Leads, Body 20x14mm, Pitch 0.65mm, IPC Low Density)
3D model XC7372-PQ100 (100-Pin Plastic Quad Flat Pack (PQ100))
pins: 1 O/~{CKEN}0/MC3-4 (io), 2 GND (power), 3 O/~{CKEN}1/MC3-3 (io), 4 FO/MC2-1 (io), 5 O/FOE0/MC3-5 (io), 6 O/FOE1/MC3-6 (io), 7 VCCINT/VPP (power), 8 I/FI (in), 9 I/O/FI/MC3-7 (io), 10 I/FI (in), 11 I/FI (in), 12 I/FI (in), 13 I/FI (in), 14 I/FI (in), 15 ~{MR}, 16 I/FI (in), 17 I/FI (in), 18 I/FI (in), 19 I/FI (in), 20 I/FI (in), 21 I/O/FI/MC8-8 (io), 22 I/FI (in), 23 GND (power), 24 O/FCLK0/MC8-3 (io), 25 O/FCLK1/MC8-4 (io), 26 FO/MC1-1 (io), 27 I/O/FI/MC8-9 (io), 28 VCCIO (power), 29 O/FCLK2/MC8-5 (io), 30 FO/MC1-2 (io), 31 FO/MC1-3 (io), 32 FO/MC1-4 (io), 33 GND (power), 34 FO/MC1-5 (io), 35 FO/MC1-6 (io), 36 O/MC8-1 (io), 37 FO/MC1-7 (io), 38 FO/MC1-8 (io), 39 FO/MC1-9 (io), 40 VCCIO (power), 41 I/O/MC7-1 (io), 42 I/O/MC7-2 (io), 43 I/O/MC7-3 (io), 44 I/O/MC7-6 (io), 45 O/MC8-2 (io), 46 GND (power), 47 I/O/FI/MC7-7 (io), 48 O/MC8-6 (io), 49 I/O/FI/MC7-8 (io), 50 I/O/FI/MC7-9 (io), 51 I/O/MC6-1 (io), 52 I/O/MC6-2 (io), 53 VCCIO (power), 54 I/O/MC6-3 (io), 55 I/O/MC7-4 (io), 56 I/O/MC7-5 (io), 57 I/O/MC6-4 (io), 58 I/O/MC6-5 (io), 59 VCCINT (power), 60 I/O/MC6-6 (io), 61 I/O/FI/MC8-7 (io), 62 I/O/FI/MC6-7 (io), 63 I/O/FI/MC6-8 (io), 64 GND (power), 65 I/O/FI/MC6-9 (io), 66 I/O/MC5-1 (io), 67 I/O/MC5-2 (io), 68 I/O/MC5-3 (io), 69 I/O/MC5-4 (io), 70 I/O/MC5-5 (io), 71 GND (power), 72 I/O/MC5-6 (io), 73 I/O/MC4-5 (io), 74 I/O/MC4-4 (io), 75 O/MC3-1 (io), 76 I/O/FI/MC5-7 (io), 77 GND (power), 78 I/O/FI/MC5-8 (io), 79 I/O/FI/MC5-9 (io), 80 I/O/MC4-1 (io), 81 O/MC3-2 (io), 82 I/O/FI/MC3-8 (io), 83 I/O/MC4-2 (io), 84 I/O/MC4-6 (io), 85 I/O/MC4-3 (io), 86 GND (power), 87 I/O/FI/MC4-7 (io), 88 I/O/FI/MC4-8 (io), 89 I/O/FI/MC4-9 (io), 90 VCCIO (power), 91 FO/MC2-9 (io), 92 FO/MC2-8 (io), 93 FO/MC2-7 (io), 94 I/O/FI/MC3-9 (io), 95 FO/MC2-6 (io), 96 FO/MC2-5 (io), 97 FO/MC2-4 (io), 98 FO/MC2-3 (io), 99 FO/MC2-2 (io), 100 VCCINT (power)

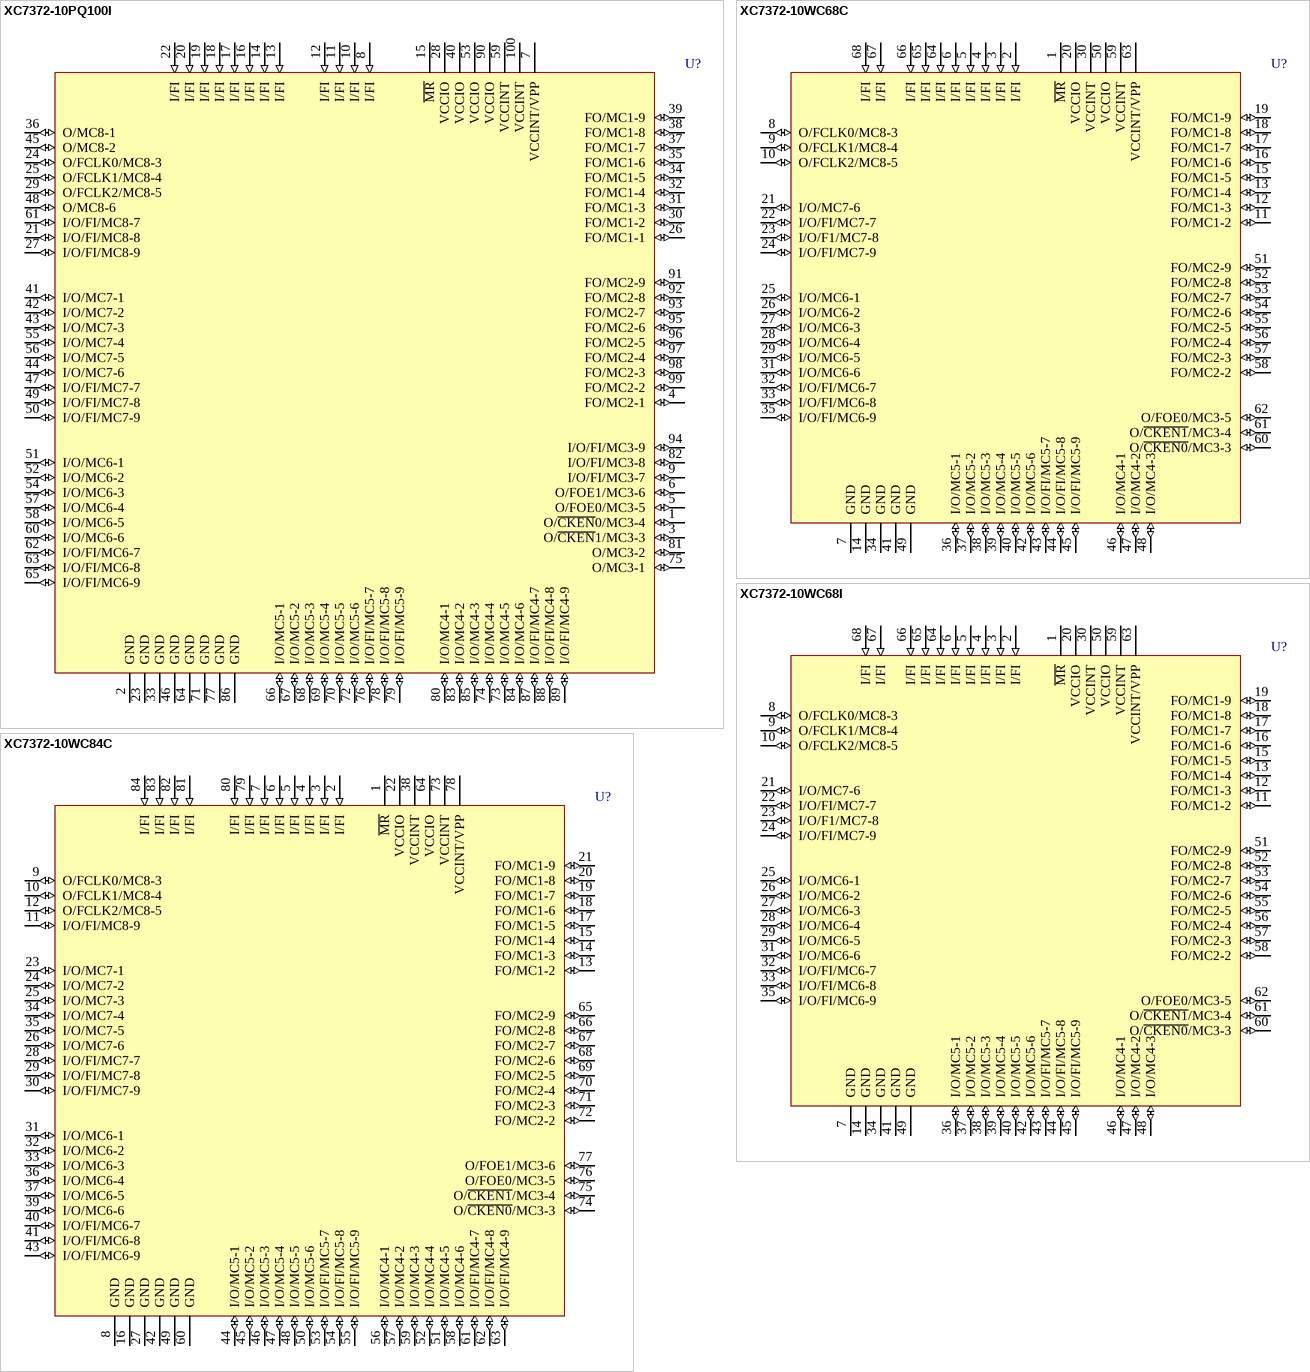
[diagram p22: symbols XC7372-10PQ100I to XC7372-10WC84C]